# Altium integrated library Lattice CPLD ispMACH 5000B.IntLib: 54 symbols (part 5 of 6)
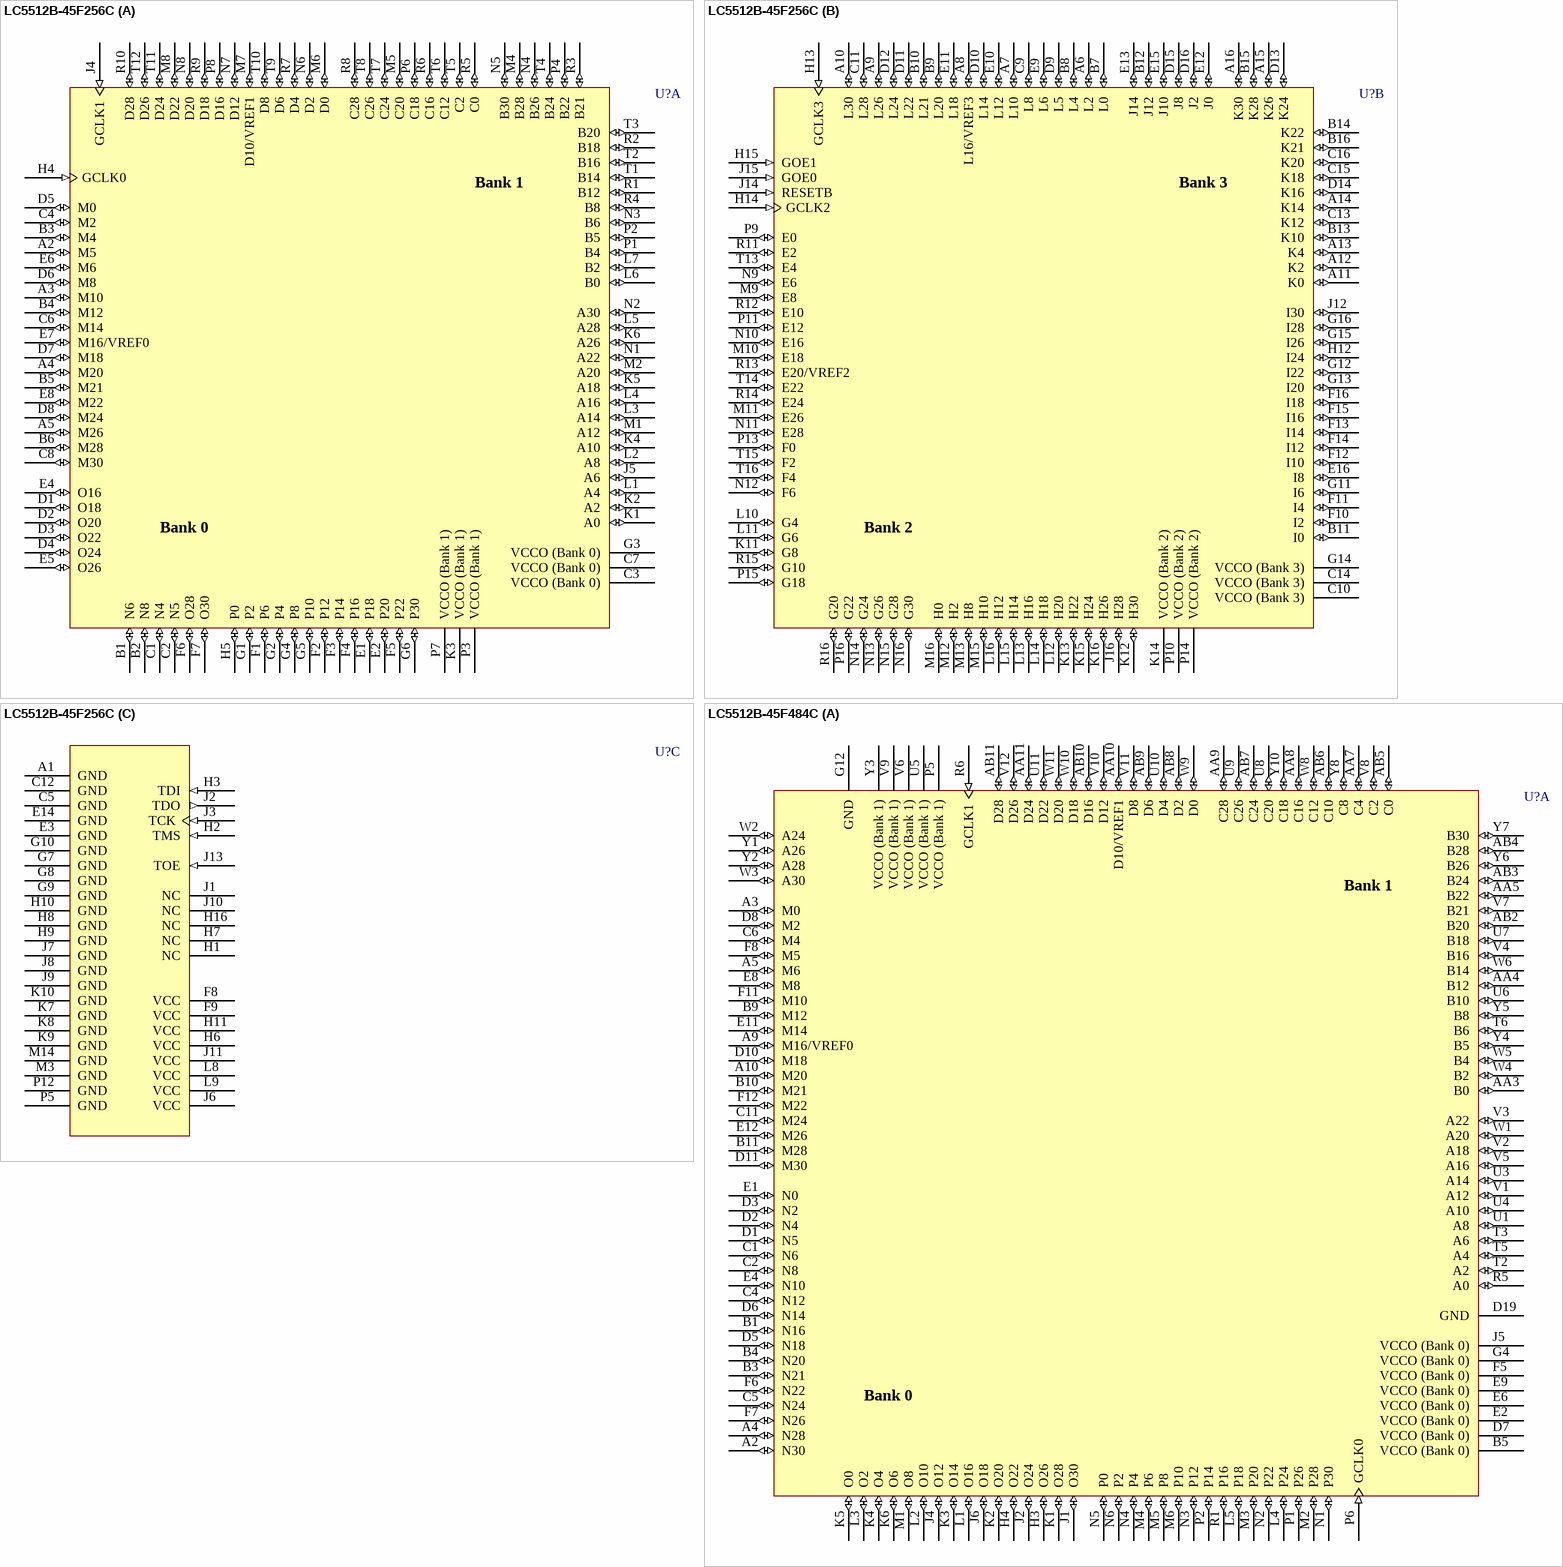
[diagram p48: symbols LC5512B-45F256C to LC5512B-45F484C]

## LC5512B-45F256C
designator U?
ispMACH 5512B SuperWIDE, High Density PLD, 2.5 V, 196 User I/Os, 256-Ball fpBGA, 4.5 ns, Commercial Grade; Published: 17-Dec-2003; LatestRevisionDate: 13-Apr-2006; LatestRevisionNote: IPC-7351 Footprint Added.; DatasheetVersion: 5kb_11.1 (Sep-2003); PackageVersion: pkg_32, Aug-2005; PackageReference: fpBGA256; Publisher: Altium Limited; PackageDescription: 256-Ball Fine Pitch Ball Grid Array (fpBGA256); Code_IPC: BGA100P16X16-256; ComponentLink1Description: Manufacturer Link; ComponentLink1URL: http://www.latticesemi.com/; ComponentLink2Description: Datasheet; ComponentLink2URL: http://www.latticesemi.com/account/_download.cfm?AMID=4957; ComponentLink3Description: Lattice Login; ComponentLink3URL: http://www.latticesemi.com/account/login.cfm
footprint fpBGA256 (BGA, 256-Leads, Body 17x17mm, Pitch 1mm)
3D model 5512B-fpBGA256 (256-Ball Fine Pitch Ball Grid Array (fpBGA256))
part A pins: A2 M5 (io), A3 M10 (io), A4 M20 (io), A5 M26 (io), B1 N6 (io), B2 N8 (io), B3 M4 (io), B4 M12 (io), B5 M21 (io), B6 M28 (io), C1 N4 (io), C2 N5 (io), C3 VCCO (Bank 0) (power), C4 M2 (io), C6 M14 (io), C7 VCCO (Bank 0) (power), C8 M30 (io), D1 O18 (io), D2 O20 (io), D3 O22 (io), D4 O24 (io), D5 M0 (io), D6 M8 (io), D7 M18 (io), D8 M24 (io), E1 P18 (io), E2 P20 (io), E4 O16 (io), E5 O26 (io), E6 M6 (io), E7 M16/VREF0 (io), E8 M22 (io), F1 P6 (io), F2 P12 (io), F3 P14 (io), F4 P16 (io), F5 P22 (io), F6 O28 (io), F7 O30 (io), G1 P2 (io), G2 P4 (io), G3 VCCO (Bank 0) (power), G4 P8 (io), G5 P10 (io), G6 P30 (io), H4 GCLK0 (in), H5 P0 (io), J4 GCLK1 (in), J5 A6 (io), K1 A0 (io), K2 A2 (io), K3 VCCO (Bank 1) (power), K4 A10 (io), K5 A18 (io), K6 A26 (io), L1 A4 (io), L2 A8 (io), L3 A14 (io), L4 A16 (io), L5 A28 (io), L6 B0 (io), L7 B2 (io), M1 A12 (io), M2 A20 (io), M4 B28 (io), M5 C20 (io), M6 D0 (io), M7 D10/VREF1 (io), M8 D22 (io), N1 A22 (io), N2 A30 (io), N3 B6 (io), N4 B26 (io), N5 B30 (io), N6 D2 (io), N7 D12 (io), N8 D20 (io), P1 B4 (io), P2 B5 (io), P3 VCCO (Bank 1) (power), P4 B22 (io), P6 C18 (io), P7 VCCO (Bank 1) (power), P8 D16 (io), R1 B12 (io), R2 B18 (io), R3 B21 (io), R4 B8 (io), R5 C0 (io), R6 C16 (io), R7 D4 (io), R8 C28 (io), R9 D18 (io), R10 D28 (io), T1 B14 (io), T2 B16 (io), T3 B20 (io), T4 B24 (io), T5 C2 (io), T6 C12 (io), T7 C24 (io), T8 C26 (io), T9 D6 (io), T10 D8 (io), T11 D24 (io), T12 D26 (io)
part B pins: A6 L2 (io), A7 L10 (io), A8 L16/VREF3 (io), A9 L26 (io), A10 L30 (io), A11 K0 (io), A12 K2 (io), A13 K4 (io), A14 K14 (io), A15 K26 (io), A16 K30 (io), B7 L0 (io), B8 L4 (io), B9 L20 (io), B10 L21 (io), B11 I0 (io), B12 J12 (io), B13 K10 (io), B14 K22 (io), B15 K28 (io), B16 K21 (io), C9 L8 (io), C10 VCCO (Bank 3) (power), C11 L28 (io), C13 K12 (io), C14 VCCO (Bank 3) (power), C15 K18 (io), C16 K20 (io), D9 L5 (io), D10 L14 (io), D11 L22 (io), D12 L24 (io), D13 K24 (io), D14 K16 (io), D15 J8 (io), D16 J2 (io), E9 L6 (io), E10 L12 (io), E11 L18 (io), E12 J0 (io), E13 J14 (io), E15 J10 (io), E16 I8 (io), F10 I2 (io), F11 I4 (io), F12 I10 (io), F13 I14 (io), F14 I12 (io), F15 I16 (io), F16 I18 (io), G11 I6 (io), G12 I22 (io), G13 I20 (io), G14 VCCO (Bank 3) (power), G15 I26 (io), G16 I28 (io), H12 I24 (io), H13 GCLK3 (in), H14 GCLK2 (in), H15 GOE1 (in), J12 I30 (io), J14 RESETB (in), J15 GOE0 (in), J16 H28 (io), K11 G8 (io), K12 H30 (io), K13 H22 (io), K14 VCCO (Bank 2) (power), K15 H24 (io), K16 H26 (io), L10 G4 (io), L11 G6 (io), L12 H20 (io), L13 H16 (io), L14 H18 (io), L15 H14 (io), L16 H12 (io), M9 E8 (io), M10 E18 (io), M11 E26 (io), M12 H2 (io), M13 H8 (io), M15 H10 (io), M16 H0 (io), N9 E6 (io), N10 E16 (io), N11 E28 (io), N12 F6 (io), N13 G26 (io), N14 G24 (io), N15 G28 (io), N16 G30 (io), P9 E0 (io), P10 VCCO (Bank 2) (power), P11 E12 (io), P13 F0 (io), P14 VCCO (Bank 2) (power), P15 G18 (io), P16 G22 (io), R11 E2 (io), R12 E10 (io), R13 E20/VREF2 (io), R14 E24 (io), R15 G10 (io), R16 G20 (io), T13 E4 (io), T14 E22 (io), T15 F2 (io), T16 F4 (io)
part C pins: A1 GND (power), C5 GND (power), C12 GND (power), E3 GND (power), E14 GND (power), F8 VCC (power), F9 VCC (power), G7 GND (power), G8 GND (power), G9 GND (power), G10 GND (power), H1 NC, H2 TMS (in), H3 TDI (in), H6 VCC (power), H7 NC, H8 GND (power), H9 GND (power), H10 GND (power), H11 VCC (power), H16 NC, J1 NC, J2 TDO (out), J3 TCK (in), J6 VCC (power), J7 GND (power), J8 GND (power), J9 GND (power), J10 NC, J11 VCC (power), J13 TOE (in), K7 GND (power), K8 GND (power), K9 GND (power), K10 GND (power), L8 VCC (power), L9 VCC (power), M3 GND (power), M14 GND (power), P5 GND (power), P12 GND (power)
part A text: Bank 1; Bank 0
part B text: Bank 3; Bank 2

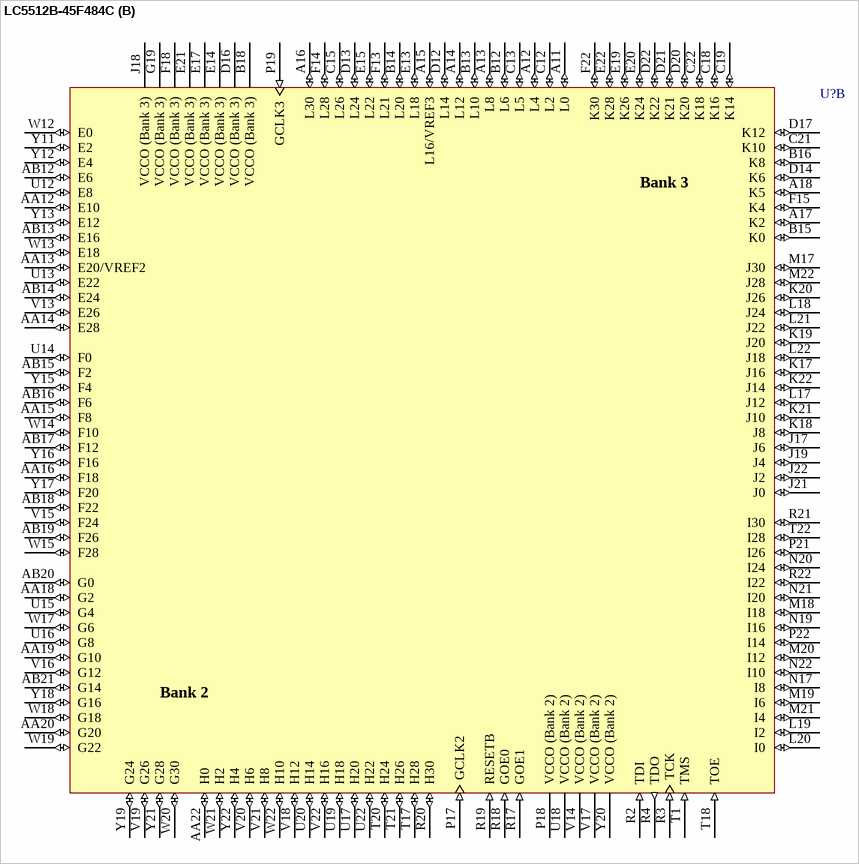
[diagram p35: symbol LC5512B-45F484C]

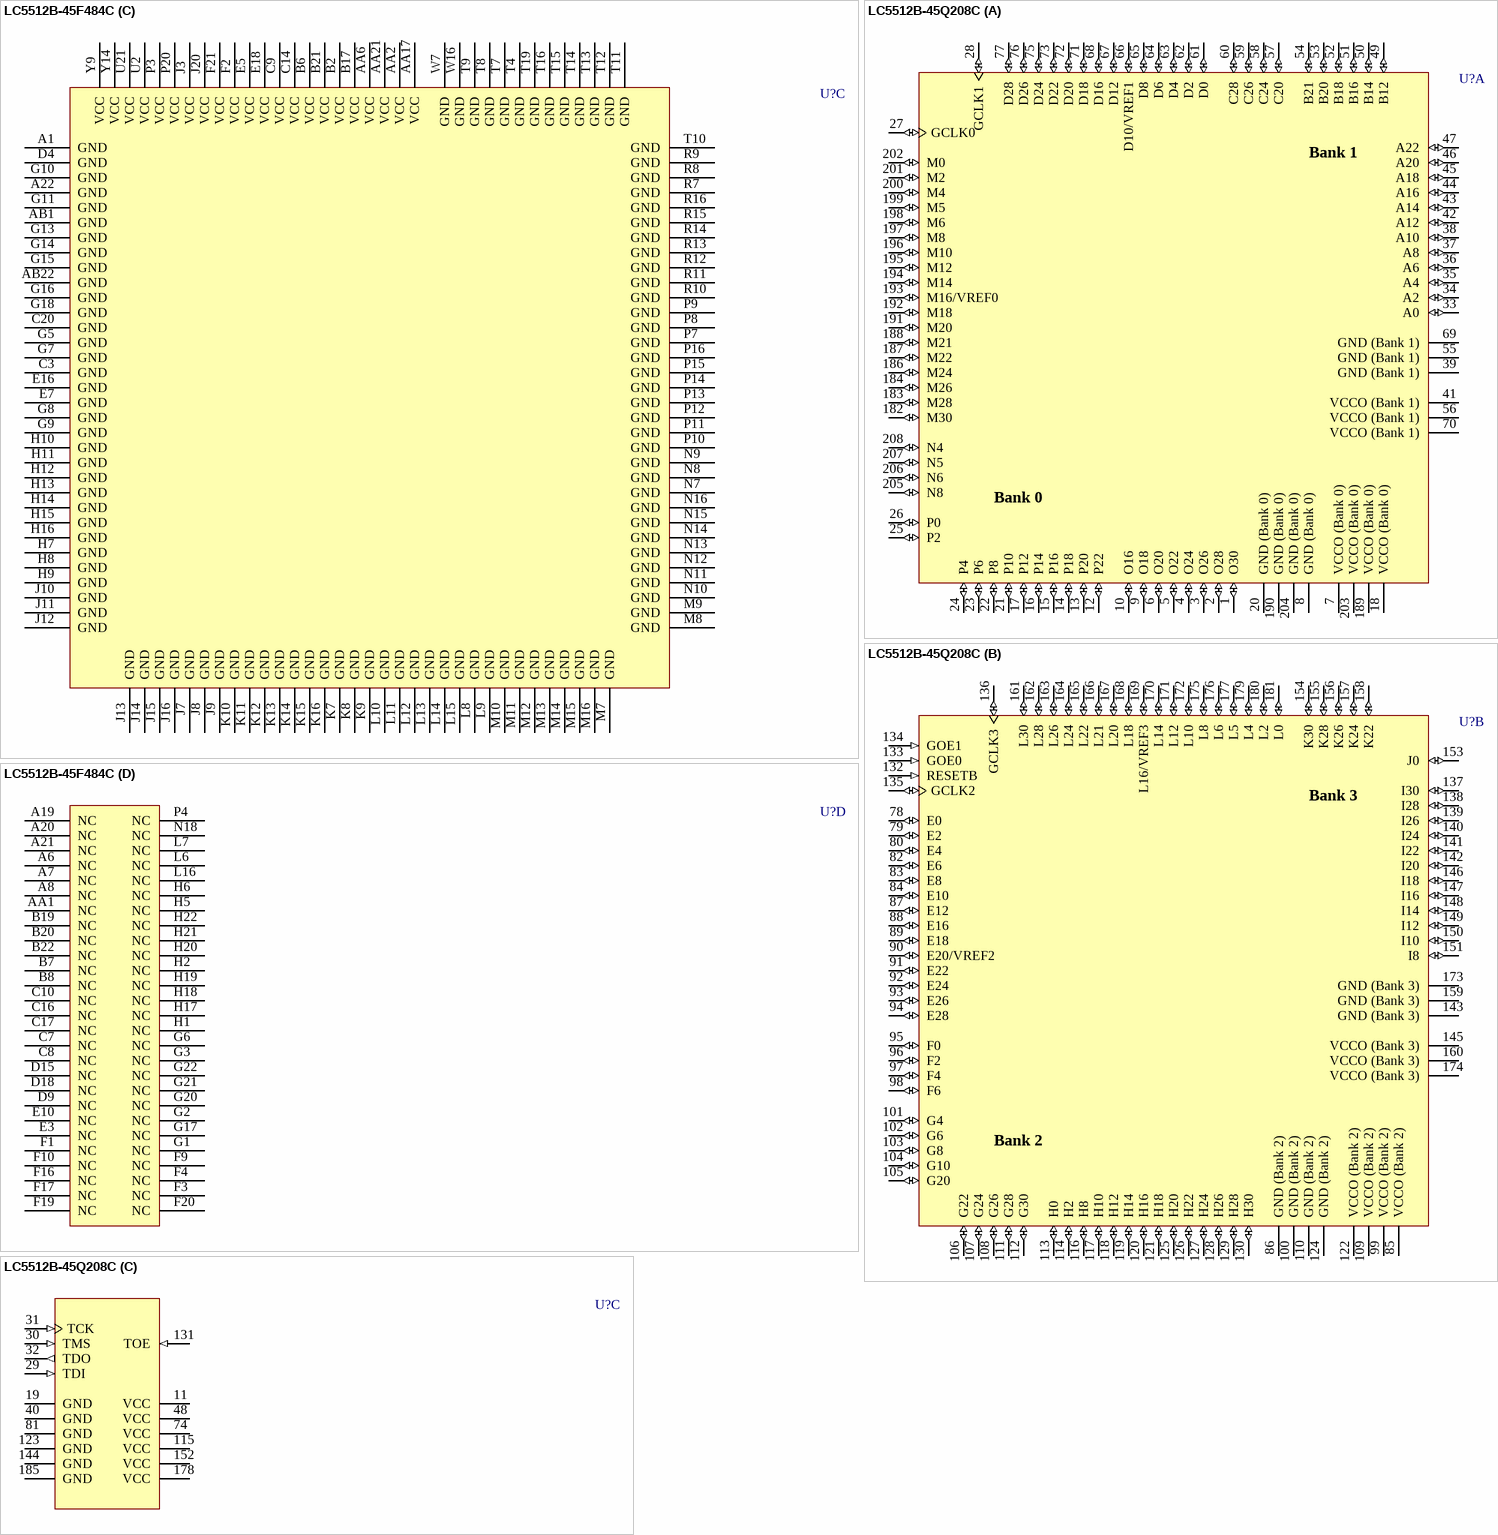
[diagram p36: symbols LC5512B-45F484C to LC5512B-45Q208C]

## LC5512B-45F484C
designator U?
ispMACH 5512B SuperWIDE, High Density PLD, 2.5 V, 256 User I/Os, 484-Ball fpBGA, 4.5 ns, Commercial Grade; Published: 17-Dec-2003; LatestRevisionDate: 13-Apr-2006; LatestRevisionNote: IPC-7351 Footprint Added.; DatasheetVersion: 5kb_11.1 (Sep-2003); PackageVersion: pkg_32, Aug-2005; PackageReference: fpBGA484; Publisher: Altium Limited; PackageDescription: 484-Ball Fine Pitch Ball Grid Array (fpBGA484); Code_IPC: BGA100P22X22-484; ComponentLink1Description: Manufacturer Link; ComponentLink1URL: http://www.latticesemi.com/; ComponentLink2Description: Datasheet; ComponentLink2URL: http://www.latticesemi.com/account/_download.cfm?AMID=4957; ComponentLink3Description: Lattice Login; ComponentLink3URL: http://www.latticesemi.com/account/login.cfm
footprint fpBGA484 (BGA, 484-Leads, Body 23x23mm, Pitch 1mm)
3D model 5512B-fpBGA484 (484-Ball Fine Pitch Ball Grid Array (fpBGA484))
part A pins: A2 N30 (io), A3 M0 (io), A4 N28 (io), A5 M6 (io), A9 M16/VREF0 (io), A10 M20 (io), AA3 B0 (io), AA4 B12 (io), AA5 B22 (io), AA7 C4 (io), AA8 C16 (io), AA9 C28 (io), AA10 D10/VREF1 (io), AA11 D24 (io), AB2 B20 (io), AB3 B24 (io), AB4 B28 (io), AB5 C0 (io), AB6 C10 (io), AB7 C24 (io), AB8 D2 (io), AB9 D6 (io), AB10 D16 (io), AB11 D28 (io), B1 N16 (io), B3 N21 (io), B4 N20 (io), B5 VCCO (Bank 0) (power), B9 M12 (io), B10 M21 (io), B11 M28 (io), C1 N6 (io), C2 N8 (io), C4 N12 (io), C5 N24 (io), C6 M4 (io), C11 M24 (io), D1 N5 (io), D2 N4 (io), D3 N2 (io), D5 N18 (io), D6 N14 (io), D7 VCCO (Bank 0) (power), D8 M2 (io), D10 M18 (io), D11 M30 (io), D19 GND (power), E1 N0 (io), E2 VCCO (Bank 0) (power), E4 N10 (io), E6 VCCO (Bank 0) (power), E8 M8 (io), E9 VCCO (Bank 0) (power), E11 M14 (io), E12 M26 (io), F5 VCCO (Bank 0) (power), F6 N22 (io), F7 N26 (io), F8 M5 (io), F11 M10 (io), F12 M22 (io), G4 VCCO (Bank 0) (power), G12 GND (power), H3 O26 (io), H4 O22 (io), J1 O30 (io), J2 O24 (io), J4 O12 (io), J5 VCCO (Bank 0) (power), J6 O18 (io), K1 O28 (io), K2 O20 (io), K3 O14 (io), K4 O4 (io), K5 O0 (io), K6 O6 (io), L1 O16 (io), L2 O10 (io), L3 O2 (io), L4 P24 (io), L5 P18 (io), M1 O8 (io), M2 P28 (io), M3 P20 (io), M4 P6 (io), M5 P8 (io), M6 P10 (io), N1 P30 (io), N2 P22 (io), N3 P12 (io), N4 P4 (io), N5 P0 (io), N6 P2 (io), P1 P26 (io), P2 P14 (io), P5 VCCO (Bank 1) (power), P6 GCLK0 (in), R1 P16 (io), R5 A0 (io), R6 GCLK1 (in), T2 A2 (io), T3 A6 (io), T5 A4 (io), T6 B6 (io), U1 A8 (io), U3 A14 (io), U4 A10 (io), U5 VCCO (Bank 1) (power), U6 B10 (io), U7 B18 (io), U8 C20 (io), U9 C26 (io), U10 D4 (io), U11 D22 (io), V1 A12 (io), V2 A18 (io), V3 A22 (io), V4 B16 (io), V5 A16 (io), V6 VCCO (Bank 1) (power), V7 B21 (io), V8 C2 (io), V9 VCCO (Bank 1) (power), V10 D12 (io), V11 D8 (io), V12 D26 (io), W1 A20 (io), W2 A24 (io), W3 A30 (io), W4 B2 (io), W5 B4 (io), W6 B14 (io), W8 C12 (io), W9 D0 (io), W10 D18 (io), W11 D20 (io), Y1 A26 (io), Y2 A28 (io), Y3 VCCO (Bank 1) (power), Y4 B5 (io), Y5 B8 (io), Y6 B26 (io), Y7 B30 (io), Y8 C8 (io), Y10 C18 (io)
part B pins: A11 L0 (io), A12 L4 (io), A13 L8 (io), A14 L12 (io), A15 L16/VREF3 (io), A16 L30 (io), A17 K2 (io), A18 K5 (io), AA12 E10 (io), AA13 E20/VREF2 (io), AA14 E28 (io), AA15 F8 (io), AA16 F18 (io), AA18 G2 (io), AA19 G10 (io), AA20 G20 (io), AA22 H0 (io), AB12 E6 (io), AB13 E16 (io), AB14 E24 (io), AB15 F2 (io), AB16 F6 (io), AB17 F12 (io), AB18 F22 (io), AB19 F26 (io), AB20 G0 (io), AB21 G14 (io), B12 L6 (io), B13 L10 (io), B14 L20 (io), B15 K0 (io), B16 K8 (io), B18 VCCO (Bank 3) (power), C12 L2 (io), C13 L5 (io), C15 L26 (io), C18 K16 (io), C19 K14 (io), C21 K10 (io), C22 K18 (io), D12 L14 (io), D13 L24 (io), D14 K6 (io), D16 VCCO (Bank 3) (power), D17 K12 (io), D20 K20 (io), D21 K21 (io), D22 K22 (io), E13 L18 (io), E14 VCCO (Bank 3) (power), E15 L22 (io), E17 VCCO (Bank 3) (power), E19 K26 (io), E20 K24 (io), E21 VCCO (Bank 3) (power), E22 K28 (io), F13 L21 (io), F14 L28 (io), F15 K4 (io), F18 VCCO (Bank 3) (power), F22 K30 (io), G19 VCCO (Bank 3) (power), J17 J6 (io), J18 VCCO (Bank 3) (power), J19 J4 (io), J21 J0 (io), J22 J2 (io), K17 J16 (io), K18 J8 (io), K19 J20 (io), K20 J26 (io), K21 J10 (io), K22 J14 (io), L17 J12 (io), L18 J24 (io), L19 I2 (io), L20 I0 (io), L21 J22 (io), L22 J18 (io), M17 J30 (io), M18 I18 (io), M19 I6 (io), M20 I12 (io), M21 I4 (io), M22 J28 (io), N17 I8 (io), N19 I16 (io), N20 I24 (io), N21 I20 (io), N22 I10 (io), P17 GCLK2 (in), P18 VCCO (Bank 2) (power), P19 GCLK3 (in), P21 I26 (io), P22 I14 (io), R2 TDI (in), R3 TCK (in), R4 TDO (out), R17 GOE1 (in), R18 GOE0 (in), R19 RESETB (in), R20 H30 (io), R21 I30 (io), R22 I22 (io), T1 TMS (in), T17 H28 (io), T18 TOE (in), T20 H24 (io), T21 H26 (io), T22 I28 (io), U12 E8 (io), U13 E22 (io), U14 F0 (io), U15 G4 (io), U16 G8 (io), U17 H20 (io), U18 VCCO (Bank 2) (power), U19 H18 (io), U20 H14 (io), U22 H22 (io), V13 E26 (io), V14 VCCO (Bank 2) (power), V15 F24 (io), V16 G12 (io), V17 VCCO (Bank 2) (power), V18 H12 (io), V19 G26 (io), V20 H6 (io), V21 H8 (io), V22 H16 (io), W12 E0 (io), W13 E18 (io), W14 F10 (io), W15 F28 (io), W17 G6 (io), W18 G18 (io), W19 G22 (io), W20 G30 (io), W21 H2 (io), W22 H10 (io), Y11 E2 (io), Y12 E4 (io), Y13 E12 (io), Y15 F4 (io), Y16 F16 (io), Y17 F20 (io), Y18 G16 (io), Y19 G24 (io), Y20 VCCO (Bank 2) (power), Y21 G28 (io), Y22 H4 (io)
part C pins: A1 GND (power), A22 GND (power), AA2 VCC (power), AA6 VCC (power), AA17 VCC (power), AA21 VCC (power), AB1 GND (power), AB22 GND (power), B2 VCC (power), B6 VCC (power), B17 VCC (power), B21 VCC (power), C3 GND (power), C9 VCC (power), C14 VCC (power), C20 GND (power), D4 GND (power), E5 VCC (power), E7 GND (power), E16 GND (power), E18 VCC (power), F2 VCC (power), F21 VCC (power), G5 GND (power), G7 GND (power), G8 GND (power), G9 GND (power), G10 GND (power), G11 GND (power), G13 GND (power), G14 GND (power), G15 GND (power), G16 GND (power), G18 GND (power), H7 GND (power), H8 GND (power), H9 GND (power), H10 GND (power), H11 GND (power), H12 GND (power), H13 GND (power), H14 GND (power), H15 GND (power), H16 GND (power), J3 VCC (power), J7 GND (power), J8 GND (power), J9 GND (power), J10 GND (power), J11 GND (power), J12 GND (power), J13 GND (power), J14 GND (power), J15 GND (power), J16 GND (power), J20 VCC (power), K7 GND (power), K8 GND (power), K9 GND (power), K10 GND (power), K11 GND (power), K12 GND (power), K13 GND (power), K14 GND (power), K15 GND (power), K16 GND (power), L8 GND (power), L9 GND (power), L10 GND (power), L11 GND (power), L12 GND (power), L13 GND (power), L14 GND (power), L15 GND (power), M7 GND (power), M8 GND (power), M9 GND (power), M10 GND (power), M11 GND (power), M12 GND (power), M13 GND (power), M14 GND (power), M15 GND (power), M16 GND (power), N7 GND (power), N8 GND (power), N9 GND (power), N10 GND (power), N11 GND (power), N12 GND (power), N13 GND (power), N14 GND (power), N15 GND (power), N16 GND (power), P3 VCC (power), P7 GND (power), P8 GND (power), P9 GND (power), P10 GND (power), P11 GND (power), P12 GND (power), P13 GND (power), P14 GND (power), P15 GND (power), P16 GND (power), P20 VCC (power), R7 GND (power), R8 GND (power), R9 GND (power), R10 GND (power), R11 GND (power), R12 GND (power), R13 GND (power), R14 GND (power), R15 GND (power), R16 GND (power), T4 GND (power), T7 GND (power), T8 GND (power), T9 GND (power), T10 GND (power), T11 GND (power), T12 GND (power), T13 GND (power), T14 GND (power), T15 GND (power), T16 GND (power), T19 GND (power), U2 VCC (power), U21 VCC (power), W7 GND (power), W16 GND (power), Y9 VCC (power), Y14 VCC (power)
part D pins: A6 NC, A7 NC, A8 NC, A19 NC, A20 NC, A21 NC, AA1 NC, B7 NC, B8 NC, B19 NC, B20 NC, B22 NC, C7 NC, C8 NC, C10 NC, C16 NC, C17 NC, D9 NC, D15 NC, D18 NC, E3 NC, E10 NC, F1 NC, F3 NC, F4 NC, F9 NC, F10 NC, F16 NC, F17 NC, F19 NC, F20 NC, G1 NC, G2 NC, G3 NC, G6 NC, G17 NC, G20 NC, G21 NC, G22 NC, H1 NC, H2 NC, H5 NC, H6 NC, H17 NC, H18 NC, H19 NC, H20 NC, H21 NC, H22 NC, L6 NC, L7 NC, L16 NC, N18 NC, P4 NC
part A text: Bank 1; Bank 0
part B text: Bank 3; Bank 2

## LC5512B-45Q208C
designator U?
ispMACH 5512B SuperWIDE, High Density PLD, 2.5 V, 156 User I/Os, 208-Pin PQFP, 4.5 ns, Commercial Grade; Published: 17-Dec-2003; LatestRevisionDate: 13-Apr-2006; LatestRevisionNote: IPC-7351 Footprint Added.; DatasheetVersion: 5kb_11.1 (Sep-2003); PackageVersion: pkg_32, Aug-2005; PackageReference: PQFP208; Publisher: Altium Limited; PackageDescription: 208-Pin Plastic Quad Flat Pack (PQFP208); Code_JEDEC: MO-143-FAI; ComponentLink1Description: Manufacturer Link; ComponentLink1URL: http://www.latticesemi.com/; ComponentLink2Description: Datasheet; ComponentLink2URL: http://www.latticesemi.com/account/_download.cfm?AMID=4957; ComponentLink3Description: Lattice Login; ComponentLink3URL: http://www.latticesemi.com/account/login.cfm
footprint PQFP208_N (Shrink QFP, 208-Leads, Body 28x28mm, Pitch 0.5mm, IPC Medium Density)
footprint PQFP208_L (Shrink QFP, 208-Leads, Body 28x28mm, Pitch 0.5mm, IPC High Density)
footprint PQFP208_M (Shrink QFP, 208-Leads, Body 28x28mm, Pitch 0.5mm, IPC Low Density)
3D model 5512B-PQFP208 (208-Pin Plastic Quad Flat Pack (PQFP208))
part A pins: 1 O30 (io), 2 O28 (io), 3 O26 (io), 4 O24 (io), 5 O22 (io), 6 O20 (io), 7 VCCO (Bank 0) (power), 8 GND (Bank 0) (power), 9 O18 (io), 10 O16 (io), 12 P22 (io), 13 P20 (io), 14 P18 (io), 15 P16 (io), 16 P14 (io), 17 P12 (io), 18 VCCO (Bank 0) (power), 20 GND (Bank 0) (power), 21 P10 (io), 22 P8 (io), 23 P6 (io), 24 P4 (io), 25 P2 (io), 26 P0 (io), 27 GCLK0 (io), 28 GCLK1 (io), 33 A0 (io), 34 A2 (io), 35 A4 (io), 36 A6 (io), 37 A8 (io), 38 A10 (io), 39 GND (Bank 1) (power), 41 VCCO (Bank 1) (power), 42 A12 (io), 43 A14 (io), 44 A16 (io), 45 A18 (io), 46 A20 (io), 47 A22 (io), 49 B12 (io), 50 B14 (io), 51 B16 (io), 52 B18 (io), 53 B20 (io), 54 B21 (io), 55 GND (Bank 1) (power), 56 VCCO (Bank 1) (power), 57 C20 (io), 58 C24 (io), 59 C26 (io), 60 C28 (io), 61 D0 (io), 62 D2 (io), 63 D4 (io), 64 D6 (io), 65 D8 (io), 66 D10/VREF1 (io), 67 D12 (io), 68 D16 (io), 69 GND (Bank 1) (power), 70 VCCO (Bank 1) (power), 71 D18 (io), 72 D20 (io), 73 D22 (io), 75 D24 (io), 76 D26 (io), 77 D28 (io), 182 M30 (io), 183 M28 (io), 184 M26 (io), 186 M24 (io), 187 M22 (io), 188 M21 (io), 189 VCCO (Bank 0) (power), 190 GND (Bank 0) (power), 191 M20 (io), 192 M18 (io), 193 M16/VREF0 (io), 194 M14 (io), 195 M12 (io), 196 M10 (io), 197 M8 (io), 198 M6 (io), 199 M5 (io), 200 M4 (io), 201 M2 (io), 202 M0 (io), 203 VCCO (Bank 0) (power), 204 GND (Bank 0) (power), 205 N8 (io), 206 N6 (io), 207 N5 (io), 208 N4 (io)
part B pins: 78 E0 (io), 79 E2 (io), 80 E4 (io), 82 E6 (io), 83 E8 (io), 84 E10 (io), 85 VCCO (Bank 2) (power), 86 GND (Bank 2) (power), 87 E12 (io), 88 E16 (io), 89 E18 (io), 90 E20/VREF2 (io), 91 E22 (io), 92 E24 (io), 93 E26 (io), 94 E28 (io), 95 F0 (io), 96 F2 (io), 97 F4 (io), 98 F6 (io), 99 VCCO (Bank 2) (power), 100 GND (Bank 2) (power), 101 G4 (io), 102 G6 (io), 103 G8 (io), 104 G10 (io), 105 G20 (io), 106 G22 (io), 107 G24 (io), 108 G26 (io), 109 VCCO (Bank 2) (power), 110 GND (Bank 2) (power), 111 G28 (io), 112 G30 (io), 113 H0 (io), 114 H2 (io), 116 H8 (io), 117 H10 (io), 118 H12 (io), 119 H14 (io), 120 H16 (io), 121 H18 (io), 122 VCCO (Bank 2) (power), 124 GND (Bank 2) (power), 125 H20 (io), 126 H22 (io), 127 H24 (io), 128 H26 (io), 129 H28 (io), 130 H30 (io), 132 RESETB (in), 133 GOE0 (in), 134 GOE1 (in), 135 GCLK2 (io), 136 GCLK3 (io), 137 I30 (io), 138 I28 (io), 139 I26 (io), 140 I24 (io), 141 I22 (io), 142 I20 (io), 143 GND (Bank 3) (power), 145 VCCO (Bank 3) (power), 146 I18 (io), 147 I16 (io), 148 I14 (io), 149 I12 (io), 150 I10 (io), 151 I8 (io), 153 J0 (io), 154 K30 (io), 155 K28 (io), 156 K26 (io), 157 K24 (io), 158 K22 (io), 159 GND (Bank 3) (power), 160 VCCO (Bank 3) (power), 161 L30 (io), 162 L28 (io), 163 L26 (io), 164 L24 (io), 165 L22 (io), 166 L21 (io), 167 L20 (io), 168 L18 (io), 169 L16/VREF3 (io), 170 L14 (io), 171 L12 (io), 172 L10 (io), 173 GND (Bank 3) (power), 174 VCCO (Bank 3) (power), 175 L8 (io), 176 L6 (io), 177 L5 (io), 179 L4 (io), 180 L2 (io), 181 L0 (io)
part C pins: 11 VCC (power), 19 GND (power), 29 TDI (in), 30 TMS (in), 31 TCK (in), 32 TDO (out), 40 GND (power), 48 VCC (power), 74 VCC (power), 81 GND (power), 115 VCC (power), 123 GND (power), 131 TOE (in), 144 GND (power), 152 VCC (power), 178 VCC (power), 185 GND (power)
part A text: Bank 1; Bank 0
part B text: Bank 3; Bank 2

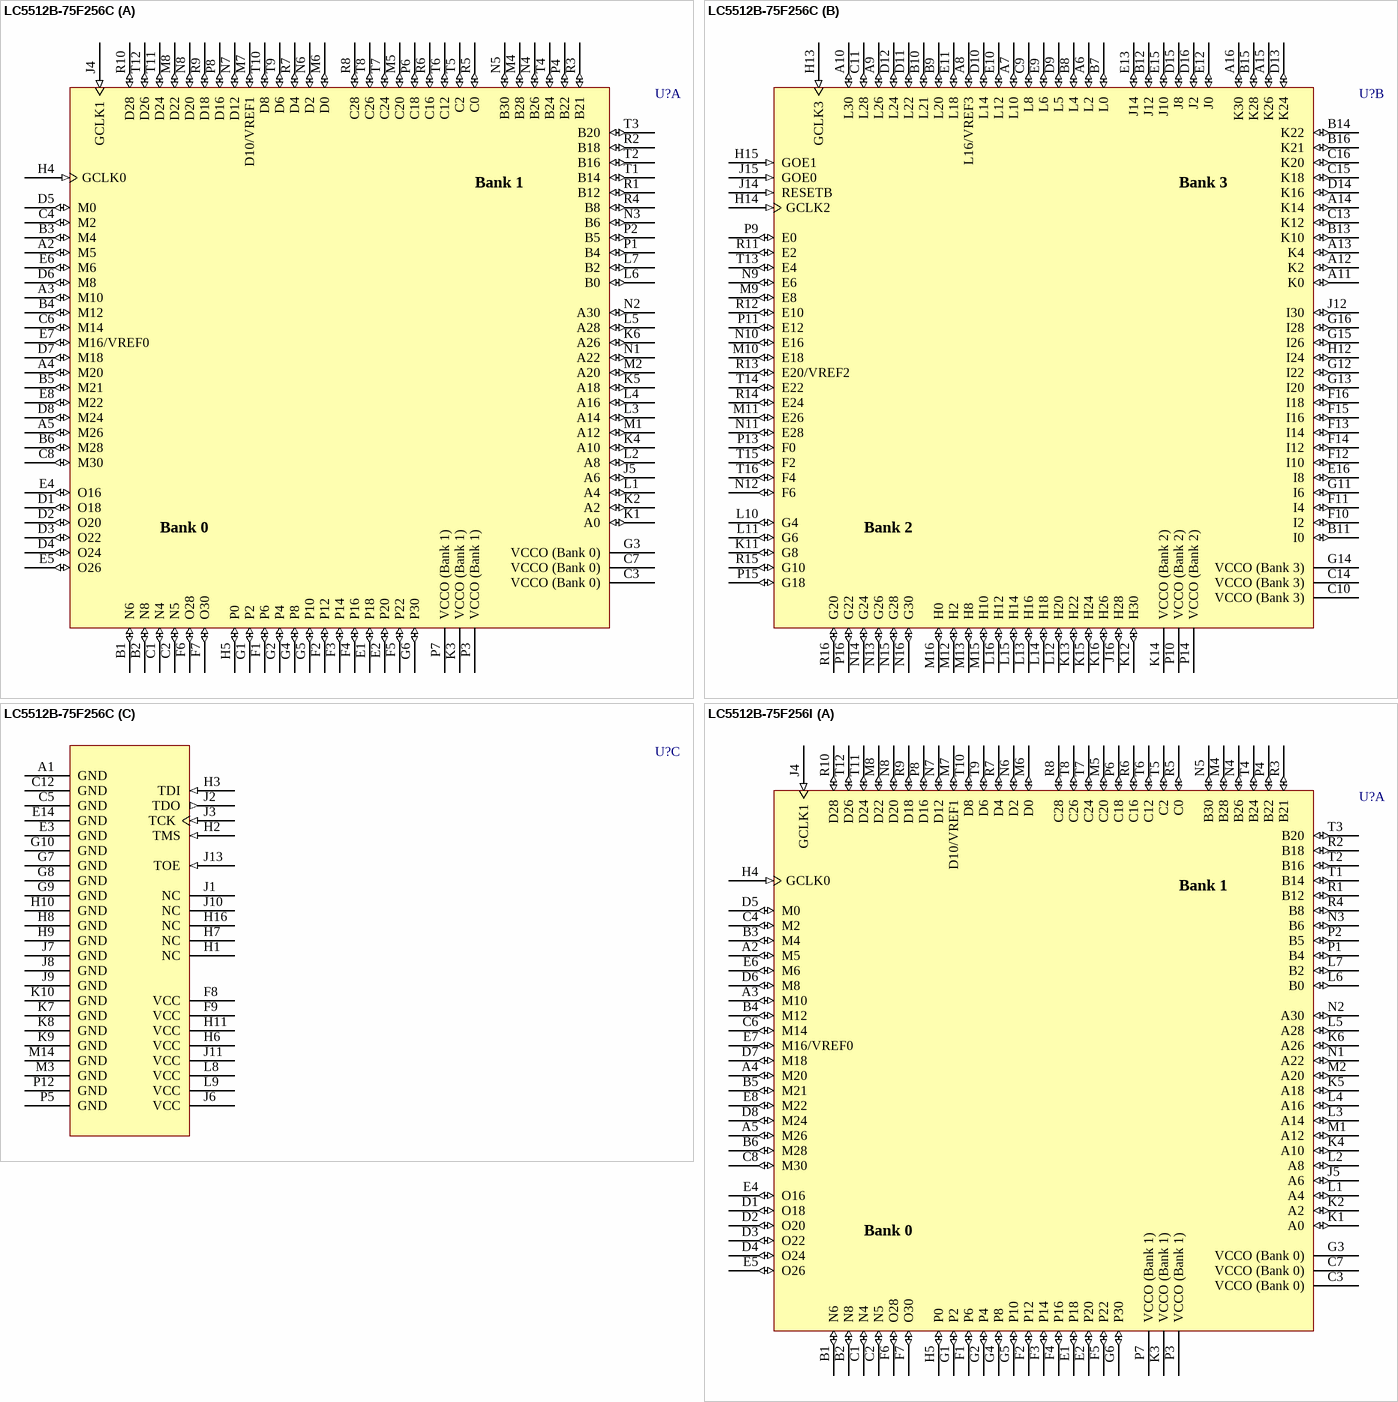
[diagram p37: symbols LC5512B-75F256C to LC5512B-75F256I]

## LC5512B-75F256C
designator U?
ispMACH 5512B SuperWIDE, High Density PLD, 2.5 V, 196 User I/Os, 256-Ball fpBGA, 7.5 ns, Commercial Grade; Published: 17-Dec-2003; LatestRevisionDate: 13-Apr-2006; LatestRevisionNote: IPC-7351 Footprint Added.; DatasheetVersion: 5kb_11.1 (Sep-2003); PackageVersion: pkg_32, Aug-2005; PackageReference: fpBGA256; Publisher: Altium Limited; PackageDescription: 256-Ball Fine Pitch Ball Grid Array (fpBGA256); Code_IPC: BGA100P16X16-256; ComponentLink1Description: Manufacturer Link; ComponentLink1URL: http://www.latticesemi.com/; ComponentLink2Description: Datasheet; ComponentLink2URL: http://www.latticesemi.com/account/_download.cfm?AMID=4957; ComponentLink3Description: Lattice Login; ComponentLink3URL: http://www.latticesemi.com/account/login.cfm
footprint fpBGA256 (BGA, 256-Leads, Body 17x17mm, Pitch 1mm)
3D model 5512B-fpBGA256 (256-Ball Fine Pitch Ball Grid Array (fpBGA256))
part A pins: A2 M5 (io), A3 M10 (io), A4 M20 (io), A5 M26 (io), B1 N6 (io), B2 N8 (io), B3 M4 (io), B4 M12 (io), B5 M21 (io), B6 M28 (io), C1 N4 (io), C2 N5 (io), C3 VCCO (Bank 0) (power), C4 M2 (io), C6 M14 (io), C7 VCCO (Bank 0) (power), C8 M30 (io), D1 O18 (io), D2 O20 (io), D3 O22 (io), D4 O24 (io), D5 M0 (io), D6 M8 (io), D7 M18 (io), D8 M24 (io), E1 P18 (io), E2 P20 (io), E4 O16 (io), E5 O26 (io), E6 M6 (io), E7 M16/VREF0 (io), E8 M22 (io), F1 P6 (io), F2 P12 (io), F3 P14 (io), F4 P16 (io), F5 P22 (io), F6 O28 (io), F7 O30 (io), G1 P2 (io), G2 P4 (io), G3 VCCO (Bank 0) (power), G4 P8 (io), G5 P10 (io), G6 P30 (io), H4 GCLK0 (in), H5 P0 (io), J4 GCLK1 (in), J5 A6 (io), K1 A0 (io), K2 A2 (io), K3 VCCO (Bank 1) (power), K4 A10 (io), K5 A18 (io), K6 A26 (io), L1 A4 (io), L2 A8 (io), L3 A14 (io), L4 A16 (io), L5 A28 (io), L6 B0 (io), L7 B2 (io), M1 A12 (io), M2 A20 (io), M4 B28 (io), M5 C20 (io), M6 D0 (io), M7 D10/VREF1 (io), M8 D22 (io), N1 A22 (io), N2 A30 (io), N3 B6 (io), N4 B26 (io), N5 B30 (io), N6 D2 (io), N7 D12 (io), N8 D20 (io), P1 B4 (io), P2 B5 (io), P3 VCCO (Bank 1) (power), P4 B22 (io), P6 C18 (io), P7 VCCO (Bank 1) (power), P8 D16 (io), R1 B12 (io), R2 B18 (io), R3 B21 (io), R4 B8 (io), R5 C0 (io), R6 C16 (io), R7 D4 (io), R8 C28 (io), R9 D18 (io), R10 D28 (io), T1 B14 (io), T2 B16 (io), T3 B20 (io), T4 B24 (io), T5 C2 (io), T6 C12 (io), T7 C24 (io), T8 C26 (io), T9 D6 (io), T10 D8 (io), T11 D24 (io), T12 D26 (io)
part B pins: A6 L2 (io), A7 L10 (io), A8 L16/VREF3 (io), A9 L26 (io), A10 L30 (io), A11 K0 (io), A12 K2 (io), A13 K4 (io), A14 K14 (io), A15 K26 (io), A16 K30 (io), B7 L0 (io), B8 L4 (io), B9 L20 (io), B10 L21 (io), B11 I0 (io), B12 J12 (io), B13 K10 (io), B14 K22 (io), B15 K28 (io), B16 K21 (io), C9 L8 (io), C10 VCCO (Bank 3) (power), C11 L28 (io), C13 K12 (io), C14 VCCO (Bank 3) (power), C15 K18 (io), C16 K20 (io), D9 L5 (io), D10 L14 (io), D11 L22 (io), D12 L24 (io), D13 K24 (io), D14 K16 (io), D15 J8 (io), D16 J2 (io), E9 L6 (io), E10 L12 (io), E11 L18 (io), E12 J0 (io), E13 J14 (io), E15 J10 (io), E16 I8 (io), F10 I2 (io), F11 I4 (io), F12 I10 (io), F13 I14 (io), F14 I12 (io), F15 I16 (io), F16 I18 (io), G11 I6 (io), G12 I22 (io), G13 I20 (io), G14 VCCO (Bank 3) (power), G15 I26 (io), G16 I28 (io), H12 I24 (io), H13 GCLK3 (in), H14 GCLK2 (in), H15 GOE1 (in), J12 I30 (io), J14 RESETB (in), J15 GOE0 (in), J16 H28 (io), K11 G8 (io), K12 H30 (io), K13 H22 (io), K14 VCCO (Bank 2) (power), K15 H24 (io), K16 H26 (io), L10 G4 (io), L11 G6 (io), L12 H20 (io), L13 H16 (io), L14 H18 (io), L15 H14 (io), L16 H12 (io), M9 E8 (io), M10 E18 (io), M11 E26 (io), M12 H2 (io), M13 H8 (io), M15 H10 (io), M16 H0 (io), N9 E6 (io), N10 E16 (io), N11 E28 (io), N12 F6 (io), N13 G26 (io), N14 G24 (io), N15 G28 (io), N16 G30 (io), P9 E0 (io), P10 VCCO (Bank 2) (power), P11 E12 (io), P13 F0 (io), P14 VCCO (Bank 2) (power), P15 G18 (io), P16 G22 (io), R11 E2 (io), R12 E10 (io), R13 E20/VREF2 (io), R14 E24 (io), R15 G10 (io), R16 G20 (io), T13 E4 (io), T14 E22 (io), T15 F2 (io), T16 F4 (io)
part C pins: A1 GND (power), C5 GND (power), C12 GND (power), E3 GND (power), E14 GND (power), F8 VCC (power), F9 VCC (power), G7 GND (power), G8 GND (power), G9 GND (power), G10 GND (power), H1 NC, H2 TMS (in), H3 TDI (in), H6 VCC (power), H7 NC, H8 GND (power), H9 GND (power), H10 GND (power), H11 VCC (power), H16 NC, J1 NC, J2 TDO (out), J3 TCK (in), J6 VCC (power), J7 GND (power), J8 GND (power), J9 GND (power), J10 NC, J11 VCC (power), J13 TOE (in), K7 GND (power), K8 GND (power), K9 GND (power), K10 GND (power), L8 VCC (power), L9 VCC (power), M3 GND (power), M14 GND (power), P5 GND (power), P12 GND (power)
part A text: Bank 1; Bank 0
part B text: Bank 3; Bank 2

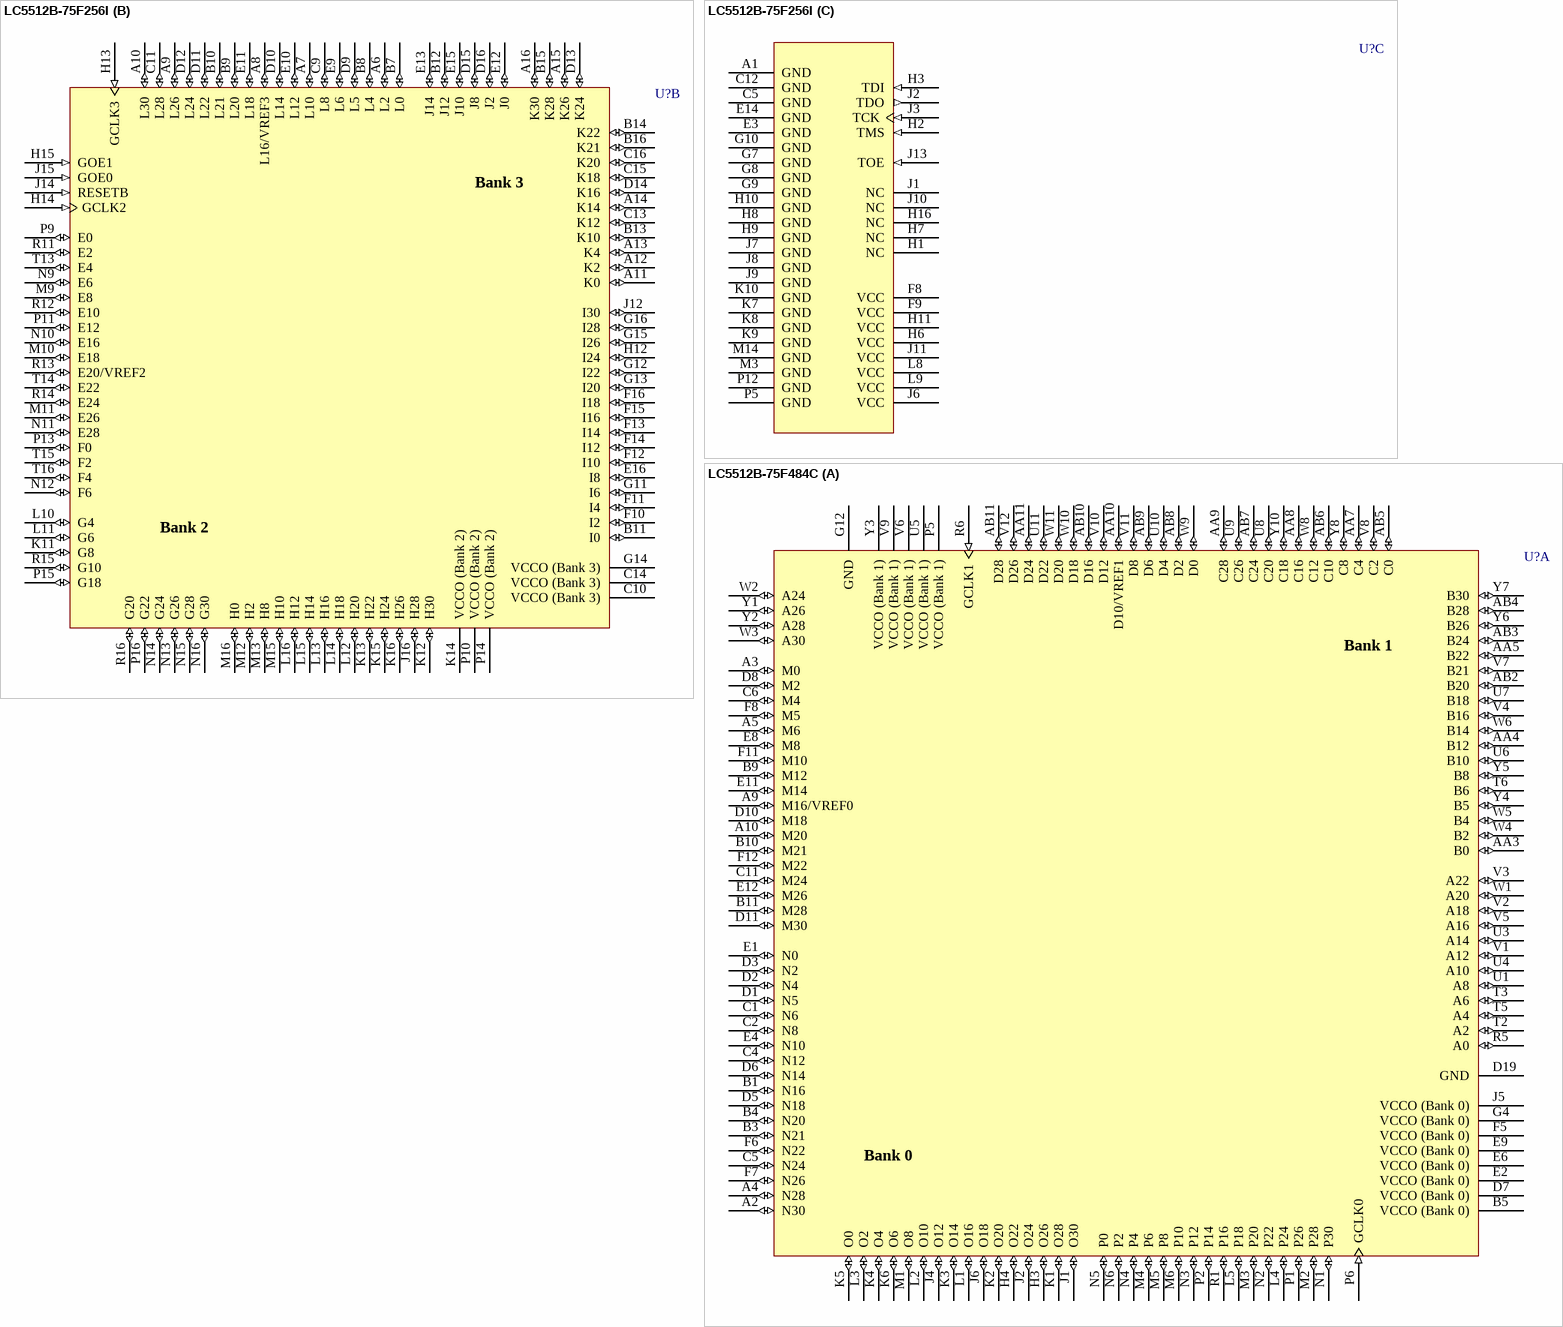
[diagram p38: symbols LC5512B-75F256I to LC5512B-75F484C]

## LC5512B-75F256I
designator U?
ispMACH 5512B SuperWIDE, High Density PLD, 2.5 V, 196 User I/Os, 256-Ball fpBGA, 7.5 ns, Industrial Grade; Published: 17-Dec-2003; LatestRevisionDate: 13-Apr-2006; LatestRevisionNote: IPC-7351 Footprint Added.; DatasheetVersion: 5kb_11.1 (Sep-2003); PackageVersion: pkg_32, Aug-2005; PackageReference: fpBGA256; Publisher: Altium Limited; PackageDescription: 256-Ball Fine Pitch Ball Grid Array (fpBGA256); Code_IPC: BGA100P16X16-256; ComponentLink1Description: Manufacturer Link; ComponentLink1URL: http://www.latticesemi.com/; ComponentLink2Description: Datasheet; ComponentLink2URL: http://www.latticesemi.com/account/_download.cfm?AMID=4957; ComponentLink3Description: Lattice Login; ComponentLink3URL: http://www.latticesemi.com/account/login.cfm
footprint fpBGA256 (BGA, 256-Leads, Body 17x17mm, Pitch 1mm)
3D model 5512B-fpBGA256 (256-Ball Fine Pitch Ball Grid Array (fpBGA256))
part A pins: A2 M5 (io), A3 M10 (io), A4 M20 (io), A5 M26 (io), B1 N6 (io), B2 N8 (io), B3 M4 (io), B4 M12 (io), B5 M21 (io), B6 M28 (io), C1 N4 (io), C2 N5 (io), C3 VCCO (Bank 0) (power), C4 M2 (io), C6 M14 (io), C7 VCCO (Bank 0) (power), C8 M30 (io), D1 O18 (io), D2 O20 (io), D3 O22 (io), D4 O24 (io), D5 M0 (io), D6 M8 (io), D7 M18 (io), D8 M24 (io), E1 P18 (io), E2 P20 (io), E4 O16 (io), E5 O26 (io), E6 M6 (io), E7 M16/VREF0 (io), E8 M22 (io), F1 P6 (io), F2 P12 (io), F3 P14 (io), F4 P16 (io), F5 P22 (io), F6 O28 (io), F7 O30 (io), G1 P2 (io), G2 P4 (io), G3 VCCO (Bank 0) (power), G4 P8 (io), G5 P10 (io), G6 P30 (io), H4 GCLK0 (in), H5 P0 (io), J4 GCLK1 (in), J5 A6 (io), K1 A0 (io), K2 A2 (io), K3 VCCO (Bank 1) (power), K4 A10 (io), K5 A18 (io), K6 A26 (io), L1 A4 (io), L2 A8 (io), L3 A14 (io), L4 A16 (io), L5 A28 (io), L6 B0 (io), L7 B2 (io), M1 A12 (io), M2 A20 (io), M4 B28 (io), M5 C20 (io), M6 D0 (io), M7 D10/VREF1 (io), M8 D22 (io), N1 A22 (io), N2 A30 (io), N3 B6 (io), N4 B26 (io), N5 B30 (io), N6 D2 (io), N7 D12 (io), N8 D20 (io), P1 B4 (io), P2 B5 (io), P3 VCCO (Bank 1) (power), P4 B22 (io), P6 C18 (io), P7 VCCO (Bank 1) (power), P8 D16 (io), R1 B12 (io), R2 B18 (io), R3 B21 (io), R4 B8 (io), R5 C0 (io), R6 C16 (io), R7 D4 (io), R8 C28 (io), R9 D18 (io), R10 D28 (io), T1 B14 (io), T2 B16 (io), T3 B20 (io), T4 B24 (io), T5 C2 (io), T6 C12 (io), T7 C24 (io), T8 C26 (io), T9 D6 (io), T10 D8 (io), T11 D24 (io), T12 D26 (io)
part B pins: A6 L2 (io), A7 L10 (io), A8 L16/VREF3 (io), A9 L26 (io), A10 L30 (io), A11 K0 (io), A12 K2 (io), A13 K4 (io), A14 K14 (io), A15 K26 (io), A16 K30 (io), B7 L0 (io), B8 L4 (io), B9 L20 (io), B10 L21 (io), B11 I0 (io), B12 J12 (io), B13 K10 (io), B14 K22 (io), B15 K28 (io), B16 K21 (io), C9 L8 (io), C10 VCCO (Bank 3) (power), C11 L28 (io), C13 K12 (io), C14 VCCO (Bank 3) (power), C15 K18 (io), C16 K20 (io), D9 L5 (io), D10 L14 (io), D11 L22 (io), D12 L24 (io), D13 K24 (io), D14 K16 (io), D15 J8 (io), D16 J2 (io), E9 L6 (io), E10 L12 (io), E11 L18 (io), E12 J0 (io), E13 J14 (io), E15 J10 (io), E16 I8 (io), F10 I2 (io), F11 I4 (io), F12 I10 (io), F13 I14 (io), F14 I12 (io), F15 I16 (io), F16 I18 (io), G11 I6 (io), G12 I22 (io), G13 I20 (io), G14 VCCO (Bank 3) (power), G15 I26 (io), G16 I28 (io), H12 I24 (io), H13 GCLK3 (in), H14 GCLK2 (in), H15 GOE1 (in), J12 I30 (io), J14 RESETB (in), J15 GOE0 (in), J16 H28 (io), K11 G8 (io), K12 H30 (io), K13 H22 (io), K14 VCCO (Bank 2) (power), K15 H24 (io), K16 H26 (io), L10 G4 (io), L11 G6 (io), L12 H20 (io), L13 H16 (io), L14 H18 (io), L15 H14 (io), L16 H12 (io), M9 E8 (io), M10 E18 (io), M11 E26 (io), M12 H2 (io), M13 H8 (io), M15 H10 (io), M16 H0 (io), N9 E6 (io), N10 E16 (io), N11 E28 (io), N12 F6 (io), N13 G26 (io), N14 G24 (io), N15 G28 (io), N16 G30 (io), P9 E0 (io), P10 VCCO (Bank 2) (power), P11 E12 (io), P13 F0 (io), P14 VCCO (Bank 2) (power), P15 G18 (io), P16 G22 (io), R11 E2 (io), R12 E10 (io), R13 E20/VREF2 (io), R14 E24 (io), R15 G10 (io), R16 G20 (io), T13 E4 (io), T14 E22 (io), T15 F2 (io), T16 F4 (io)
part C pins: A1 GND (power), C5 GND (power), C12 GND (power), E3 GND (power), E14 GND (power), F8 VCC (power), F9 VCC (power), G7 GND (power), G8 GND (power), G9 GND (power), G10 GND (power), H1 NC, H2 TMS (in), H3 TDI (in), H6 VCC (power), H7 NC, H8 GND (power), H9 GND (power), H10 GND (power), H11 VCC (power), H16 NC, J1 NC, J2 TDO (out), J3 TCK (in), J6 VCC (power), J7 GND (power), J8 GND (power), J9 GND (power), J10 NC, J11 VCC (power), J13 TOE (in), K7 GND (power), K8 GND (power), K9 GND (power), K10 GND (power), L8 VCC (power), L9 VCC (power), M3 GND (power), M14 GND (power), P5 GND (power), P12 GND (power)
part A text: Bank 1; Bank 0
part B text: Bank 3; Bank 2

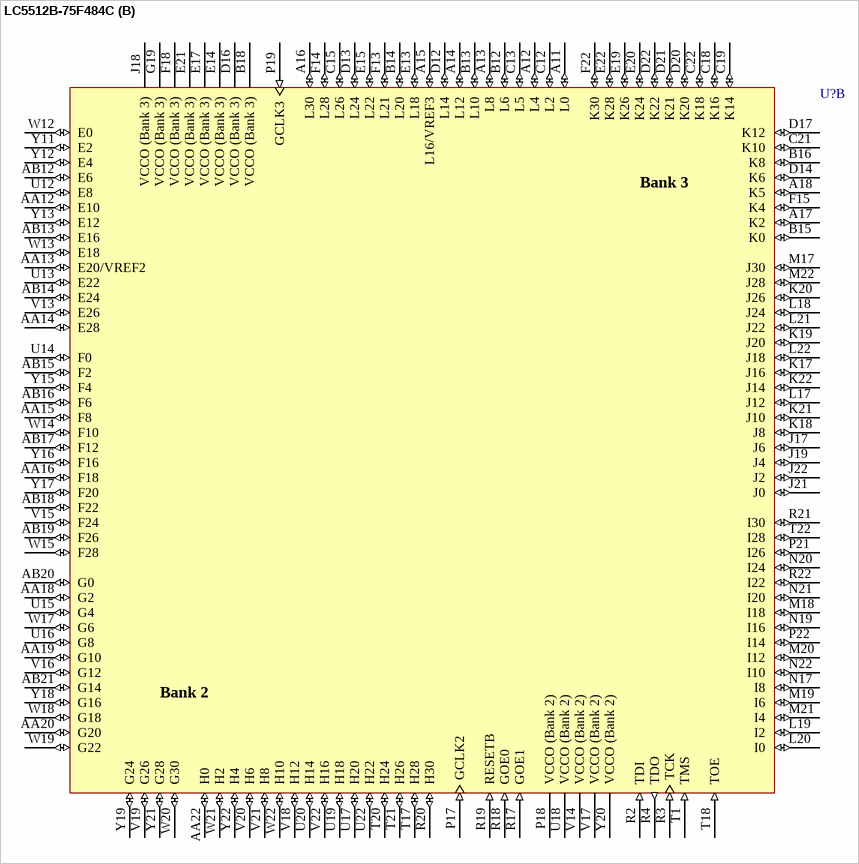
[diagram p39: symbol LC5512B-75F484C]

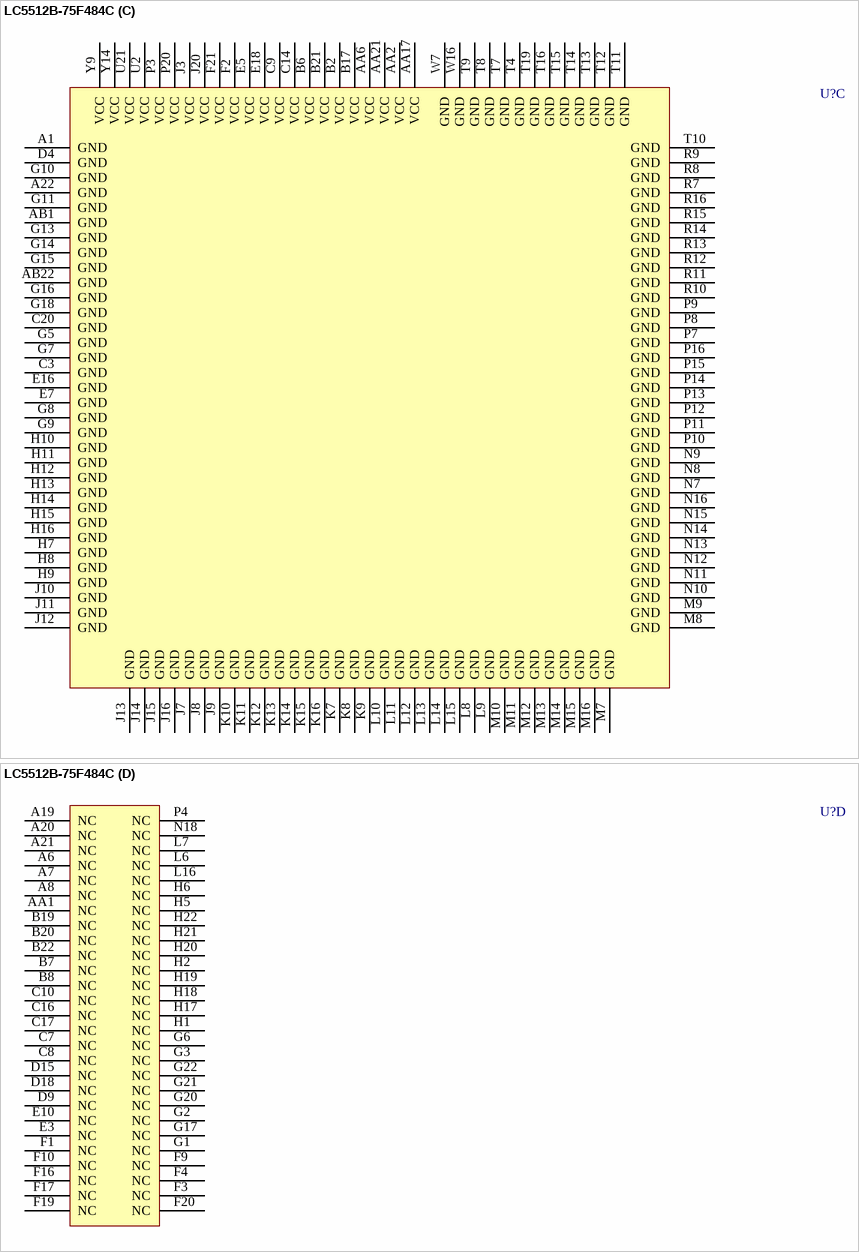
[diagram p40: symbol LC5512B-75F484C]

## LC5512B-75F484C
designator U?
ispMACH 5512B SuperWIDE, High Density PLD, 2.5 V, 256 User I/Os, 484-Ball fpBGA, 7.5 ns, Commercial Grade; Published: 17-Dec-2003; LatestRevisionDate: 13-Apr-2006; LatestRevisionNote: IPC-7351 Footprint Added.; DatasheetVersion: 5kb_11.1 (Sep-2003); PackageVersion: pkg_32, Aug-2005; PackageReference: fpBGA484; Publisher: Altium Limited; PackageDescription: 484-Ball Fine Pitch Ball Grid Array (fpBGA484); Code_IPC: BGA100P22X22-484; ComponentLink1Description: Manufacturer Link; ComponentLink1URL: http://www.latticesemi.com/; ComponentLink2Description: Datasheet; ComponentLink2URL: http://www.latticesemi.com/account/_download.cfm?AMID=4957; ComponentLink3Description: Lattice Login; ComponentLink3URL: http://www.latticesemi.com/account/login.cfm
footprint fpBGA484 (BGA, 484-Leads, Body 23x23mm, Pitch 1mm)
3D model 5512B-fpBGA484 (484-Ball Fine Pitch Ball Grid Array (fpBGA484))
part A pins: A2 N30 (io), A3 M0 (io), A4 N28 (io), A5 M6 (io), A9 M16/VREF0 (io), A10 M20 (io), AA3 B0 (io), AA4 B12 (io), AA5 B22 (io), AA7 C4 (io), AA8 C16 (io), AA9 C28 (io), AA10 D10/VREF1 (io), AA11 D24 (io), AB2 B20 (io), AB3 B24 (io), AB4 B28 (io), AB5 C0 (io), AB6 C10 (io), AB7 C24 (io), AB8 D2 (io), AB9 D6 (io), AB10 D16 (io), AB11 D28 (io), B1 N16 (io), B3 N21 (io), B4 N20 (io), B5 VCCO (Bank 0) (power), B9 M12 (io), B10 M21 (io), B11 M28 (io), C1 N6 (io), C2 N8 (io), C4 N12 (io), C5 N24 (io), C6 M4 (io), C11 M24 (io), D1 N5 (io), D2 N4 (io), D3 N2 (io), D5 N18 (io), D6 N14 (io), D7 VCCO (Bank 0) (power), D8 M2 (io), D10 M18 (io), D11 M30 (io), D19 GND (power), E1 N0 (io), E2 VCCO (Bank 0) (power), E4 N10 (io), E6 VCCO (Bank 0) (power), E8 M8 (io), E9 VCCO (Bank 0) (power), E11 M14 (io), E12 M26 (io), F5 VCCO (Bank 0) (power), F6 N22 (io), F7 N26 (io), F8 M5 (io), F11 M10 (io), F12 M22 (io), G4 VCCO (Bank 0) (power), G12 GND (power), H3 O26 (io), H4 O22 (io), J1 O30 (io), J2 O24 (io), J4 O12 (io), J5 VCCO (Bank 0) (power), J6 O18 (io), K1 O28 (io), K2 O20 (io), K3 O14 (io), K4 O4 (io), K5 O0 (io), K6 O6 (io), L1 O16 (io), L2 O10 (io), L3 O2 (io), L4 P24 (io), L5 P18 (io), M1 O8 (io), M2 P28 (io), M3 P20 (io), M4 P6 (io), M5 P8 (io), M6 P10 (io), N1 P30 (io), N2 P22 (io), N3 P12 (io), N4 P4 (io), N5 P0 (io), N6 P2 (io), P1 P26 (io), P2 P14 (io), P5 VCCO (Bank 1) (power), P6 GCLK0 (in), R1 P16 (io), R5 A0 (io), R6 GCLK1 (in), T2 A2 (io), T3 A6 (io), T5 A4 (io), T6 B6 (io), U1 A8 (io), U3 A14 (io), U4 A10 (io), U5 VCCO (Bank 1) (power), U6 B10 (io), U7 B18 (io), U8 C20 (io), U9 C26 (io), U10 D4 (io), U11 D22 (io), V1 A12 (io), V2 A18 (io), V3 A22 (io), V4 B16 (io), V5 A16 (io), V6 VCCO (Bank 1) (power), V7 B21 (io), V8 C2 (io), V9 VCCO (Bank 1) (power), V10 D12 (io), V11 D8 (io), V12 D26 (io), W1 A20 (io), W2 A24 (io), W3 A30 (io), W4 B2 (io), W5 B4 (io), W6 B14 (io), W8 C12 (io), W9 D0 (io), W10 D18 (io), W11 D20 (io), Y1 A26 (io), Y2 A28 (io), Y3 VCCO (Bank 1) (power), Y4 B5 (io), Y5 B8 (io), Y6 B26 (io), Y7 B30 (io), Y8 C8 (io), Y10 C18 (io)
part B pins: A11 L0 (io), A12 L4 (io), A13 L8 (io), A14 L12 (io), A15 L16/VREF3 (io), A16 L30 (io), A17 K2 (io), A18 K5 (io), AA12 E10 (io), AA13 E20/VREF2 (io), AA14 E28 (io), AA15 F8 (io), AA16 F18 (io), AA18 G2 (io), AA19 G10 (io), AA20 G20 (io), AA22 H0 (io), AB12 E6 (io), AB13 E16 (io), AB14 E24 (io), AB15 F2 (io), AB16 F6 (io), AB17 F12 (io), AB18 F22 (io), AB19 F26 (io), AB20 G0 (io), AB21 G14 (io), B12 L6 (io), B13 L10 (io), B14 L20 (io), B15 K0 (io), B16 K8 (io), B18 VCCO (Bank 3) (power), C12 L2 (io), C13 L5 (io), C15 L26 (io), C18 K16 (io), C19 K14 (io), C21 K10 (io), C22 K18 (io), D12 L14 (io), D13 L24 (io), D14 K6 (io), D16 VCCO (Bank 3) (power), D17 K12 (io), D20 K20 (io), D21 K21 (io), D22 K22 (io), E13 L18 (io), E14 VCCO (Bank 3) (power), E15 L22 (io), E17 VCCO (Bank 3) (power), E19 K26 (io), E20 K24 (io), E21 VCCO (Bank 3) (power), E22 K28 (io), F13 L21 (io), F14 L28 (io), F15 K4 (io), F18 VCCO (Bank 3) (power), F22 K30 (io), G19 VCCO (Bank 3) (power), J17 J6 (io), J18 VCCO (Bank 3) (power), J19 J4 (io), J21 J0 (io), J22 J2 (io), K17 J16 (io), K18 J8 (io), K19 J20 (io), K20 J26 (io), K21 J10 (io), K22 J14 (io), L17 J12 (io), L18 J24 (io), L19 I2 (io), L20 I0 (io), L21 J22 (io), L22 J18 (io), M17 J30 (io), M18 I18 (io), M19 I6 (io), M20 I12 (io), M21 I4 (io), M22 J28 (io), N17 I8 (io), N19 I16 (io), N20 I24 (io), N21 I20 (io), N22 I10 (io), P17 GCLK2 (in), P18 VCCO (Bank 2) (power), P19 GCLK3 (in), P21 I26 (io), P22 I14 (io), R2 TDI (in), R3 TCK (in), R4 TDO (out), R17 GOE1 (in), R18 GOE0 (in), R19 RESETB (in), R20 H30 (io), R21 I30 (io), R22 I22 (io), T1 TMS (in), T17 H28 (io), T18 TOE (in), T20 H24 (io), T21 H26 (io), T22 I28 (io), U12 E8 (io), U13 E22 (io), U14 F0 (io), U15 G4 (io), U16 G8 (io), U17 H20 (io), U18 VCCO (Bank 2) (power), U19 H18 (io), U20 H14 (io), U22 H22 (io), V13 E26 (io), V14 VCCO (Bank 2) (power), V15 F24 (io), V16 G12 (io), V17 VCCO (Bank 2) (power), V18 H12 (io), V19 G26 (io), V20 H6 (io), V21 H8 (io), V22 H16 (io), W12 E0 (io), W13 E18 (io), W14 F10 (io), W15 F28 (io), W17 G6 (io), W18 G18 (io), W19 G22 (io), W20 G30 (io), W21 H2 (io), W22 H10 (io), Y11 E2 (io), Y12 E4 (io), Y13 E12 (io), Y15 F4 (io), Y16 F16 (io), Y17 F20 (io), Y18 G16 (io), Y19 G24 (io), Y20 VCCO (Bank 2) (power), Y21 G28 (io), Y22 H4 (io)
part C pins: A1 GND (power), A22 GND (power), AA2 VCC (power), AA6 VCC (power), AA17 VCC (power), AA21 VCC (power), AB1 GND (power), AB22 GND (power), B2 VCC (power), B6 VCC (power), B17 VCC (power), B21 VCC (power), C3 GND (power), C9 VCC (power), C14 VCC (power), C20 GND (power), D4 GND (power), E5 VCC (power), E7 GND (power), E16 GND (power), E18 VCC (power), F2 VCC (power), F21 VCC (power), G5 GND (power), G7 GND (power), G8 GND (power), G9 GND (power), G10 GND (power), G11 GND (power), G13 GND (power), G14 GND (power), G15 GND (power), G16 GND (power), G18 GND (power), H7 GND (power), H8 GND (power), H9 GND (power), H10 GND (power), H11 GND (power), H12 GND (power), H13 GND (power), H14 GND (power), H15 GND (power), H16 GND (power), J3 VCC (power), J7 GND (power), J8 GND (power), J9 GND (power), J10 GND (power), J11 GND (power), J12 GND (power), J13 GND (power), J14 GND (power), J15 GND (power), J16 GND (power), J20 VCC (power), K7 GND (power), K8 GND (power), K9 GND (power), K10 GND (power), K11 GND (power), K12 GND (power), K13 GND (power), K14 GND (power), K15 GND (power), K16 GND (power), L8 GND (power), L9 GND (power), L10 GND (power), L11 GND (power), L12 GND (power), L13 GND (power), L14 GND (power), L15 GND (power), M7 GND (power), M8 GND (power), M9 GND (power), M10 GND (power), M11 GND (power), M12 GND (power), M13 GND (power), M14 GND (power), M15 GND (power), M16 GND (power), N7 GND (power), N8 GND (power), N9 GND (power), N10 GND (power), N11 GND (power), N12 GND (power), N13 GND (power), N14 GND (power), N15 GND (power), N16 GND (power), P3 VCC (power), P7 GND (power), P8 GND (power), P9 GND (power), P10 GND (power), P11 GND (power), P12 GND (power), P13 GND (power), P14 GND (power), P15 GND (power), P16 GND (power), P20 VCC (power), R7 GND (power), R8 GND (power), R9 GND (power), R10 GND (power), R11 GND (power), R12 GND (power), R13 GND (power), R14 GND (power), R15 GND (power), R16 GND (power), T4 GND (power), T7 GND (power), T8 GND (power), T9 GND (power), T10 GND (power), T11 GND (power), T12 GND (power), T13 GND (power), T14 GND (power), T15 GND (power), T16 GND (power), T19 GND (power), U2 VCC (power), U21 VCC (power), W7 GND (power), W16 GND (power), Y9 VCC (power), Y14 VCC (power)
part D pins: A6 NC, A7 NC, A8 NC, A19 NC, A20 NC, A21 NC, AA1 NC, B7 NC, B8 NC, B19 NC, B20 NC, B22 NC, C7 NC, C8 NC, C10 NC, C16 NC, C17 NC, D9 NC, D15 NC, D18 NC, E3 NC, E10 NC, F1 NC, F3 NC, F4 NC, F9 NC, F10 NC, F16 NC, F17 NC, F19 NC, F20 NC, G1 NC, G2 NC, G3 NC, G6 NC, G17 NC, G20 NC, G21 NC, G22 NC, H1 NC, H2 NC, H5 NC, H6 NC, H17 NC, H18 NC, H19 NC, H20 NC, H21 NC, H22 NC, L6 NC, L7 NC, L16 NC, N18 NC, P4 NC
part A text: Bank 1; Bank 0
part B text: Bank 3; Bank 2

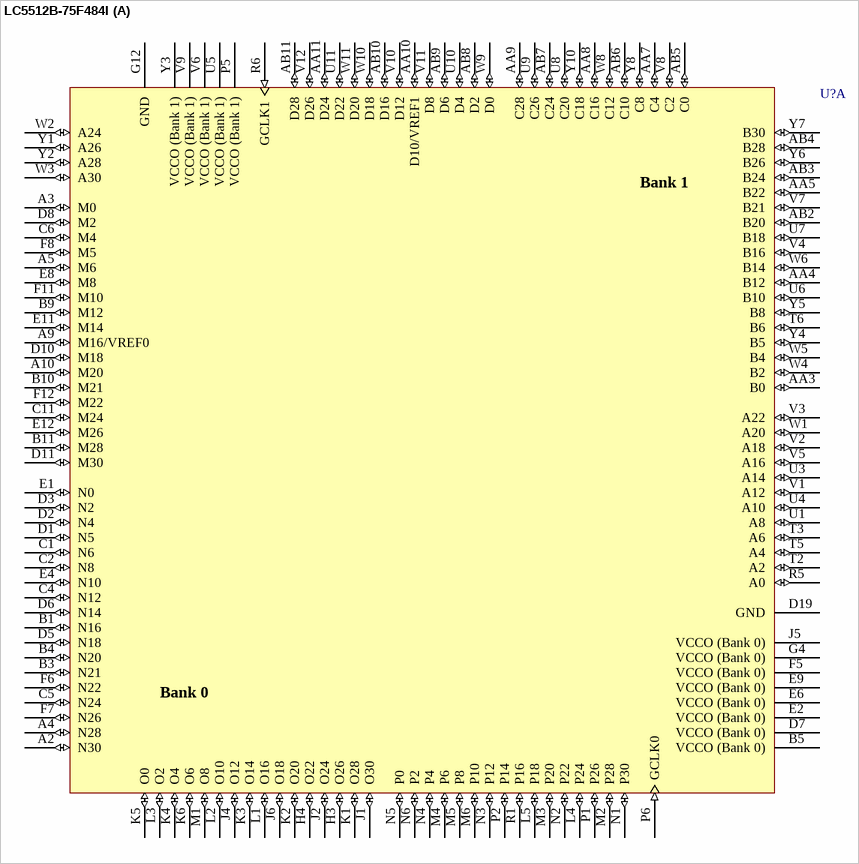
[diagram p41: symbol LC5512B-75F484I]

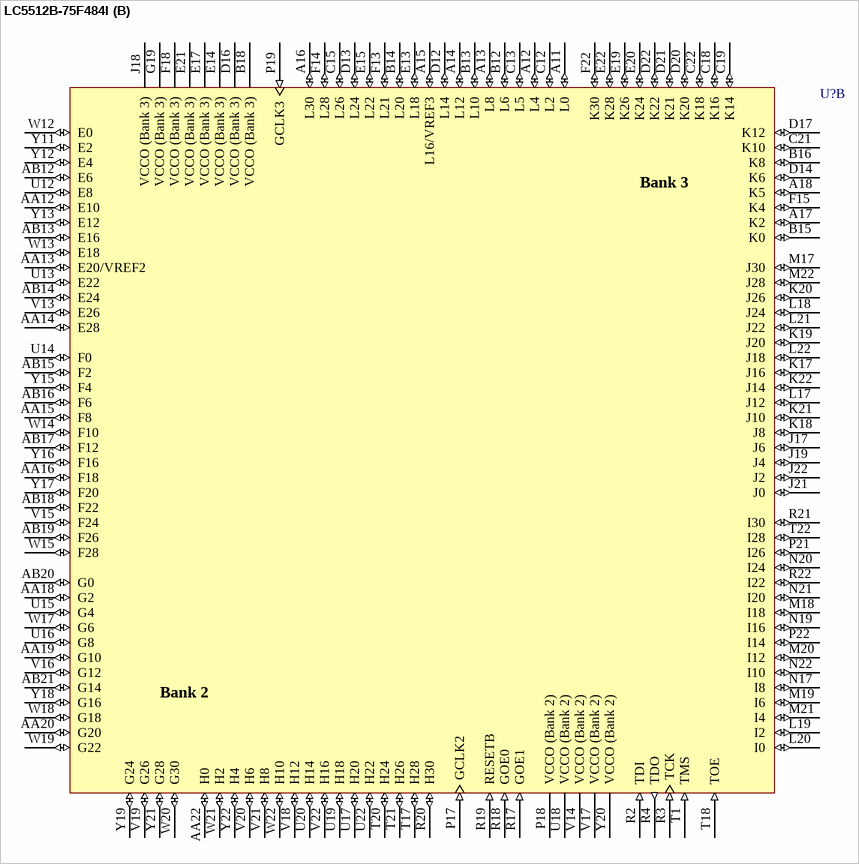
[diagram p42: symbol LC5512B-75F484I]

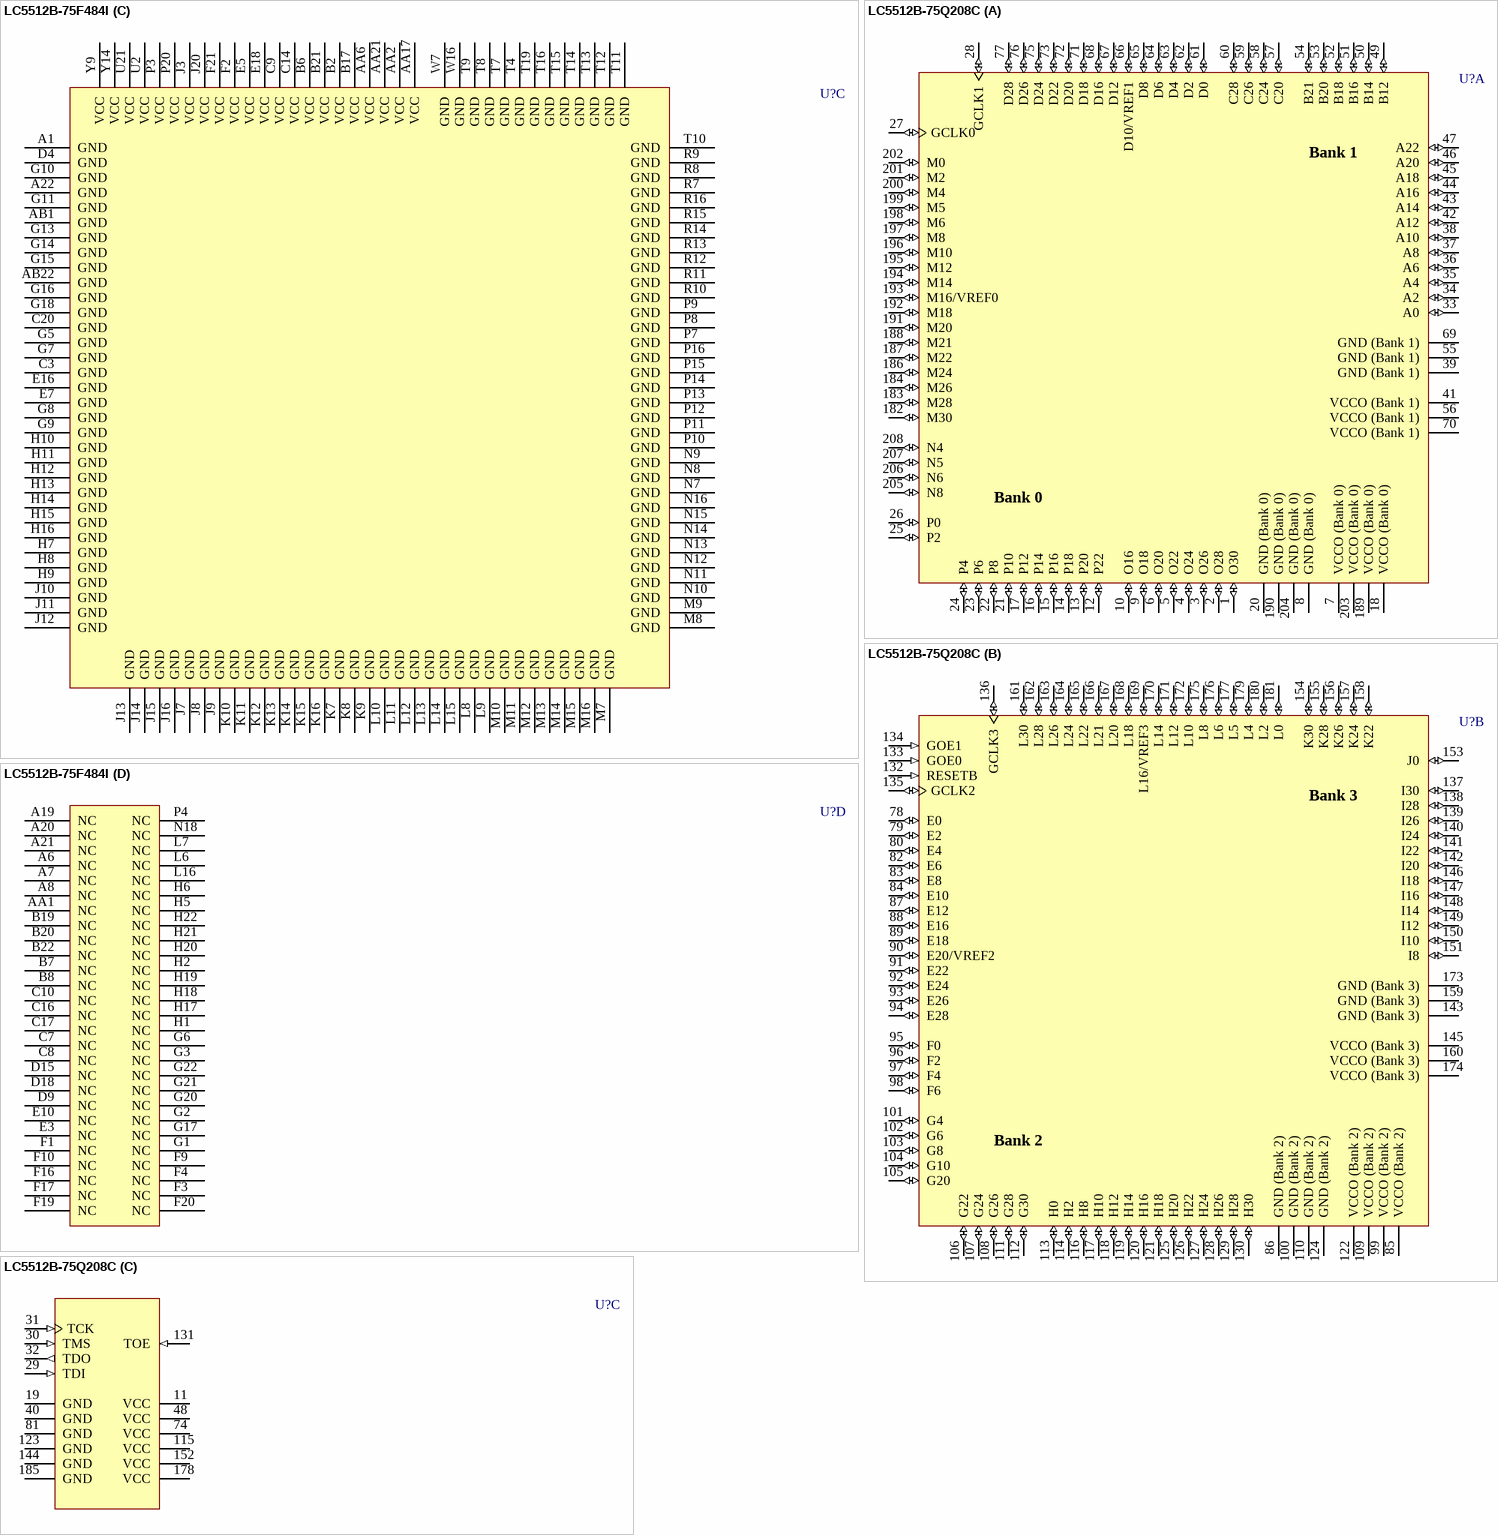
[diagram p43: symbols LC5512B-75F484I to LC5512B-75Q208C]

## LC5512B-75F484I
designator U?
ispMACH 5512B SuperWIDE, High Density PLD, 2.5 V, 256 User I/Os, 484-Ball fpBGA, 7.5 ns, Industrial Grade; Published: 17-Dec-2003; LatestRevisionDate: 13-Apr-2006; LatestRevisionNote: IPC-7351 Footprint Added.; DatasheetVersion: 5kb_11.1 (Sep-2003); PackageVersion: pkg_32, Aug-2005; PackageReference: fpBGA484; Publisher: Altium Limited; PackageDescription: 484-Ball Fine Pitch Ball Grid Array (fpBGA484); Code_IPC: BGA100P22X22-484; ComponentLink1Description: Manufacturer Link; ComponentLink1URL: http://www.latticesemi.com/; ComponentLink2Description: Datasheet; ComponentLink2URL: http://www.latticesemi.com/account/_download.cfm?AMID=4957; ComponentLink3Description: Lattice Login; ComponentLink3URL: http://www.latticesemi.com/account/login.cfm
footprint fpBGA484 (BGA, 484-Leads, Body 23x23mm, Pitch 1mm)
3D model 5512B-fpBGA484 (484-Ball Fine Pitch Ball Grid Array (fpBGA484))
part A pins: A2 N30 (io), A3 M0 (io), A4 N28 (io), A5 M6 (io), A9 M16/VREF0 (io), A10 M20 (io), AA3 B0 (io), AA4 B12 (io), AA5 B22 (io), AA7 C4 (io), AA8 C16 (io), AA9 C28 (io), AA10 D10/VREF1 (io), AA11 D24 (io), AB2 B20 (io), AB3 B24 (io), AB4 B28 (io), AB5 C0 (io), AB6 C10 (io), AB7 C24 (io), AB8 D2 (io), AB9 D6 (io), AB10 D16 (io), AB11 D28 (io), B1 N16 (io), B3 N21 (io), B4 N20 (io), B5 VCCO (Bank 0) (power), B9 M12 (io), B10 M21 (io), B11 M28 (io), C1 N6 (io), C2 N8 (io), C4 N12 (io), C5 N24 (io), C6 M4 (io), C11 M24 (io), D1 N5 (io), D2 N4 (io), D3 N2 (io), D5 N18 (io), D6 N14 (io), D7 VCCO (Bank 0) (power), D8 M2 (io), D10 M18 (io), D11 M30 (io), D19 GND (power), E1 N0 (io), E2 VCCO (Bank 0) (power), E4 N10 (io), E6 VCCO (Bank 0) (power), E8 M8 (io), E9 VCCO (Bank 0) (power), E11 M14 (io), E12 M26 (io), F5 VCCO (Bank 0) (power), F6 N22 (io), F7 N26 (io), F8 M5 (io), F11 M10 (io), F12 M22 (io), G4 VCCO (Bank 0) (power), G12 GND (power), H3 O26 (io), H4 O22 (io), J1 O30 (io), J2 O24 (io), J4 O12 (io), J5 VCCO (Bank 0) (power), J6 O18 (io), K1 O28 (io), K2 O20 (io), K3 O14 (io), K4 O4 (io), K5 O0 (io), K6 O6 (io), L1 O16 (io), L2 O10 (io), L3 O2 (io), L4 P24 (io), L5 P18 (io), M1 O8 (io), M2 P28 (io), M3 P20 (io), M4 P6 (io), M5 P8 (io), M6 P10 (io), N1 P30 (io), N2 P22 (io), N3 P12 (io), N4 P4 (io), N5 P0 (io), N6 P2 (io), P1 P26 (io), P2 P14 (io), P5 VCCO (Bank 1) (power), P6 GCLK0 (in), R1 P16 (io), R5 A0 (io), R6 GCLK1 (in), T2 A2 (io), T3 A6 (io), T5 A4 (io), T6 B6 (io), U1 A8 (io), U3 A14 (io), U4 A10 (io), U5 VCCO (Bank 1) (power), U6 B10 (io), U7 B18 (io), U8 C20 (io), U9 C26 (io), U10 D4 (io), U11 D22 (io), V1 A12 (io), V2 A18 (io), V3 A22 (io), V4 B16 (io), V5 A16 (io), V6 VCCO (Bank 1) (power), V7 B21 (io), V8 C2 (io), V9 VCCO (Bank 1) (power), V10 D12 (io), V11 D8 (io), V12 D26 (io), W1 A20 (io), W2 A24 (io), W3 A30 (io), W4 B2 (io), W5 B4 (io), W6 B14 (io), W8 C12 (io), W9 D0 (io), W10 D18 (io), W11 D20 (io), Y1 A26 (io), Y2 A28 (io), Y3 VCCO (Bank 1) (power), Y4 B5 (io), Y5 B8 (io), Y6 B26 (io), Y7 B30 (io), Y8 C8 (io), Y10 C18 (io)
part B pins: A11 L0 (io), A12 L4 (io), A13 L8 (io), A14 L12 (io), A15 L16/VREF3 (io), A16 L30 (io), A17 K2 (io), A18 K5 (io), AA12 E10 (io), AA13 E20/VREF2 (io), AA14 E28 (io), AA15 F8 (io), AA16 F18 (io), AA18 G2 (io), AA19 G10 (io), AA20 G20 (io), AA22 H0 (io), AB12 E6 (io), AB13 E16 (io), AB14 E24 (io), AB15 F2 (io), AB16 F6 (io), AB17 F12 (io), AB18 F22 (io), AB19 F26 (io), AB20 G0 (io), AB21 G14 (io), B12 L6 (io), B13 L10 (io), B14 L20 (io), B15 K0 (io), B16 K8 (io), B18 VCCO (Bank 3) (power), C12 L2 (io), C13 L5 (io), C15 L26 (io), C18 K16 (io), C19 K14 (io), C21 K10 (io), C22 K18 (io), D12 L14 (io), D13 L24 (io), D14 K6 (io), D16 VCCO (Bank 3) (power), D17 K12 (io), D20 K20 (io), D21 K21 (io), D22 K22 (io), E13 L18 (io), E14 VCCO (Bank 3) (power), E15 L22 (io), E17 VCCO (Bank 3) (power), E19 K26 (io), E20 K24 (io), E21 VCCO (Bank 3) (power), E22 K28 (io), F13 L21 (io), F14 L28 (io), F15 K4 (io), F18 VCCO (Bank 3) (power), F22 K30 (io), G19 VCCO (Bank 3) (power), J17 J6 (io), J18 VCCO (Bank 3) (power), J19 J4 (io), J21 J0 (io), J22 J2 (io), K17 J16 (io), K18 J8 (io), K19 J20 (io), K20 J26 (io), K21 J10 (io), K22 J14 (io), L17 J12 (io), L18 J24 (io), L19 I2 (io), L20 I0 (io), L21 J22 (io), L22 J18 (io), M17 J30 (io), M18 I18 (io), M19 I6 (io), M20 I12 (io), M21 I4 (io), M22 J28 (io), N17 I8 (io), N19 I16 (io), N20 I24 (io), N21 I20 (io), N22 I10 (io), P17 GCLK2 (in), P18 VCCO (Bank 2) (power), P19 GCLK3 (in), P21 I26 (io), P22 I14 (io), R2 TDI (in), R3 TCK (in), R4 TDO (out), R17 GOE1 (in), R18 GOE0 (in), R19 RESETB (in), R20 H30 (io), R21 I30 (io), R22 I22 (io), T1 TMS (in), T17 H28 (io), T18 TOE (in), T20 H24 (io), T21 H26 (io), T22 I28 (io), U12 E8 (io), U13 E22 (io), U14 F0 (io), U15 G4 (io), U16 G8 (io), U17 H20 (io), U18 VCCO (Bank 2) (power), U19 H18 (io), U20 H14 (io), U22 H22 (io), V13 E26 (io), V14 VCCO (Bank 2) (power), V15 F24 (io), V16 G12 (io), V17 VCCO (Bank 2) (power), V18 H12 (io), V19 G26 (io), V20 H6 (io), V21 H8 (io), V22 H16 (io), W12 E0 (io), W13 E18 (io), W14 F10 (io), W15 F28 (io), W17 G6 (io), W18 G18 (io), W19 G22 (io), W20 G30 (io), W21 H2 (io), W22 H10 (io), Y11 E2 (io), Y12 E4 (io), Y13 E12 (io), Y15 F4 (io), Y16 F16 (io), Y17 F20 (io), Y18 G16 (io), Y19 G24 (io), Y20 VCCO (Bank 2) (power), Y21 G28 (io), Y22 H4 (io)
part C pins: A1 GND (power), A22 GND (power), AA2 VCC (power), AA6 VCC (power), AA17 VCC (power), AA21 VCC (power), AB1 GND (power), AB22 GND (power), B2 VCC (power), B6 VCC (power), B17 VCC (power), B21 VCC (power), C3 GND (power), C9 VCC (power), C14 VCC (power), C20 GND (power), D4 GND (power), E5 VCC (power), E7 GND (power), E16 GND (power), E18 VCC (power), F2 VCC (power), F21 VCC (power), G5 GND (power), G7 GND (power), G8 GND (power), G9 GND (power), G10 GND (power), G11 GND (power), G13 GND (power), G14 GND (power), G15 GND (power), G16 GND (power), G18 GND (power), H7 GND (power), H8 GND (power), H9 GND (power), H10 GND (power), H11 GND (power), H12 GND (power), H13 GND (power), H14 GND (power), H15 GND (power), H16 GND (power), J3 VCC (power), J7 GND (power), J8 GND (power), J9 GND (power), J10 GND (power), J11 GND (power), J12 GND (power), J13 GND (power), J14 GND (power), J15 GND (power), J16 GND (power), J20 VCC (power), K7 GND (power), K8 GND (power), K9 GND (power), K10 GND (power), K11 GND (power), K12 GND (power), K13 GND (power), K14 GND (power), K15 GND (power), K16 GND (power), L8 GND (power), L9 GND (power), L10 GND (power), L11 GND (power), L12 GND (power), L13 GND (power), L14 GND (power), L15 GND (power), M7 GND (power), M8 GND (power), M9 GND (power), M10 GND (power), M11 GND (power), M12 GND (power), M13 GND (power), M14 GND (power), M15 GND (power), M16 GND (power), N7 GND (power), N8 GND (power), N9 GND (power), N10 GND (power), N11 GND (power), N12 GND (power), N13 GND (power), N14 GND (power), N15 GND (power), N16 GND (power), P3 VCC (power), P7 GND (power), P8 GND (power), P9 GND (power), P10 GND (power), P11 GND (power), P12 GND (power), P13 GND (power), P14 GND (power), P15 GND (power), P16 GND (power), P20 VCC (power), R7 GND (power), R8 GND (power), R9 GND (power), R10 GND (power), R11 GND (power), R12 GND (power), R13 GND (power), R14 GND (power), R15 GND (power), R16 GND (power), T4 GND (power), T7 GND (power), T8 GND (power), T9 GND (power), T10 GND (power), T11 GND (power), T12 GND (power), T13 GND (power), T14 GND (power), T15 GND (power), T16 GND (power), T19 GND (power), U2 VCC (power), U21 VCC (power), W7 GND (power), W16 GND (power), Y9 VCC (power), Y14 VCC (power)
part D pins: A6 NC, A7 NC, A8 NC, A19 NC, A20 NC, A21 NC, AA1 NC, B7 NC, B8 NC, B19 NC, B20 NC, B22 NC, C7 NC, C8 NC, C10 NC, C16 NC, C17 NC, D9 NC, D15 NC, D18 NC, E3 NC, E10 NC, F1 NC, F3 NC, F4 NC, F9 NC, F10 NC, F16 NC, F17 NC, F19 NC, F20 NC, G1 NC, G2 NC, G3 NC, G6 NC, G17 NC, G20 NC, G21 NC, G22 NC, H1 NC, H2 NC, H5 NC, H6 NC, H17 NC, H18 NC, H19 NC, H20 NC, H21 NC, H22 NC, L6 NC, L7 NC, L16 NC, N18 NC, P4 NC
part A text: Bank 1; Bank 0
part B text: Bank 3; Bank 2

## LC5512B-75Q208C
designator U?
ispMACH 5512B SuperWIDE, High Density PLD, 2.5 V, 156 User I/Os, 208-Pin PQFP, 7.5 ns, Commercial Grade; Published: 17-Dec-2003; LatestRevisionDate: 13-Apr-2006; LatestRevisionNote: IPC-7351 Footprint Added.; DatasheetVersion: 5kb_11.1 (Sep-2003); PackageVersion: pkg_32, Aug-2005; PackageReference: PQFP208; Publisher: Altium Limited; PackageDescription: 208-Pin Plastic Quad Flat Pack (PQFP208); Code_JEDEC: MO-143-FAI; ComponentLink1Description: Manufacturer Link; ComponentLink1URL: http://www.latticesemi.com/; ComponentLink2Description: Datasheet; ComponentLink2URL: http://www.latticesemi.com/account/_download.cfm?AMID=4957; ComponentLink3Description: Lattice Login; ComponentLink3URL: http://www.latticesemi.com/account/login.cfm
footprint PQFP208_N (Shrink QFP, 208-Leads, Body 28x28mm, Pitch 0.5mm, IPC Medium Density)
footprint PQFP208_L (Shrink QFP, 208-Leads, Body 28x28mm, Pitch 0.5mm, IPC High Density)
footprint PQFP208_M (Shrink QFP, 208-Leads, Body 28x28mm, Pitch 0.5mm, IPC Low Density)
3D model 5512B-PQFP208 (208-Pin Plastic Quad Flat Pack (PQFP208))
part A pins: 1 O30 (io), 2 O28 (io), 3 O26 (io), 4 O24 (io), 5 O22 (io), 6 O20 (io), 7 VCCO (Bank 0) (power), 8 GND (Bank 0) (power), 9 O18 (io), 10 O16 (io), 12 P22 (io), 13 P20 (io), 14 P18 (io), 15 P16 (io), 16 P14 (io), 17 P12 (io), 18 VCCO (Bank 0) (power), 20 GND (Bank 0) (power), 21 P10 (io), 22 P8 (io), 23 P6 (io), 24 P4 (io), 25 P2 (io), 26 P0 (io), 27 GCLK0 (io), 28 GCLK1 (io), 33 A0 (io), 34 A2 (io), 35 A4 (io), 36 A6 (io), 37 A8 (io), 38 A10 (io), 39 GND (Bank 1) (power), 41 VCCO (Bank 1) (power), 42 A12 (io), 43 A14 (io), 44 A16 (io), 45 A18 (io), 46 A20 (io), 47 A22 (io), 49 B12 (io), 50 B14 (io), 51 B16 (io), 52 B18 (io), 53 B20 (io), 54 B21 (io), 55 GND (Bank 1) (power), 56 VCCO (Bank 1) (power), 57 C20 (io), 58 C24 (io), 59 C26 (io), 60 C28 (io), 61 D0 (io), 62 D2 (io), 63 D4 (io), 64 D6 (io), 65 D8 (io), 66 D10/VREF1 (io), 67 D12 (io), 68 D16 (io), 69 GND (Bank 1) (power), 70 VCCO (Bank 1) (power), 71 D18 (io), 72 D20 (io), 73 D22 (io), 75 D24 (io), 76 D26 (io), 77 D28 (io), 182 M30 (io), 183 M28 (io), 184 M26 (io), 186 M24 (io), 187 M22 (io), 188 M21 (io), 189 VCCO (Bank 0) (power), 190 GND (Bank 0) (power), 191 M20 (io), 192 M18 (io), 193 M16/VREF0 (io), 194 M14 (io), 195 M12 (io), 196 M10 (io), 197 M8 (io), 198 M6 (io), 199 M5 (io), 200 M4 (io), 201 M2 (io), 202 M0 (io), 203 VCCO (Bank 0) (power), 204 GND (Bank 0) (power), 205 N8 (io), 206 N6 (io), 207 N5 (io), 208 N4 (io)
part B pins: 78 E0 (io), 79 E2 (io), 80 E4 (io), 82 E6 (io), 83 E8 (io), 84 E10 (io), 85 VCCO (Bank 2) (power), 86 GND (Bank 2) (power), 87 E12 (io), 88 E16 (io), 89 E18 (io), 90 E20/VREF2 (io), 91 E22 (io), 92 E24 (io), 93 E26 (io), 94 E28 (io), 95 F0 (io), 96 F2 (io), 97 F4 (io), 98 F6 (io), 99 VCCO (Bank 2) (power), 100 GND (Bank 2) (power), 101 G4 (io), 102 G6 (io), 103 G8 (io), 104 G10 (io), 105 G20 (io), 106 G22 (io), 107 G24 (io), 108 G26 (io), 109 VCCO (Bank 2) (power), 110 GND (Bank 2) (power), 111 G28 (io), 112 G30 (io), 113 H0 (io), 114 H2 (io), 116 H8 (io), 117 H10 (io), 118 H12 (io), 119 H14 (io), 120 H16 (io), 121 H18 (io), 122 VCCO (Bank 2) (power), 124 GND (Bank 2) (power), 125 H20 (io), 126 H22 (io), 127 H24 (io), 128 H26 (io), 129 H28 (io), 130 H30 (io), 132 RESETB (in), 133 GOE0 (in), 134 GOE1 (in), 135 GCLK2 (io), 136 GCLK3 (io), 137 I30 (io), 138 I28 (io), 139 I26 (io), 140 I24 (io), 141 I22 (io), 142 I20 (io), 143 GND (Bank 3) (power), 145 VCCO (Bank 3) (power), 146 I18 (io), 147 I16 (io), 148 I14 (io), 149 I12 (io), 150 I10 (io), 151 I8 (io), 153 J0 (io), 154 K30 (io), 155 K28 (io), 156 K26 (io), 157 K24 (io), 158 K22 (io), 159 GND (Bank 3) (power), 160 VCCO (Bank 3) (power), 161 L30 (io), 162 L28 (io), 163 L26 (io), 164 L24 (io), 165 L22 (io), 166 L21 (io), 167 L20 (io), 168 L18 (io), 169 L16/VREF3 (io), 170 L14 (io), 171 L12 (io), 172 L10 (io), 173 GND (Bank 3) (power), 174 VCCO (Bank 3) (power), 175 L8 (io), 176 L6 (io), 177 L5 (io), 179 L4 (io), 180 L2 (io), 181 L0 (io)
part C pins: 11 VCC (power), 19 GND (power), 29 TDI (in), 30 TMS (in), 31 TCK (in), 32 TDO (out), 40 GND (power), 48 VCC (power), 74 VCC (power), 81 GND (power), 115 VCC (power), 123 GND (power), 131 TOE (in), 144 GND (power), 152 VCC (power), 178 VCC (power), 185 GND (power)
part A text: Bank 1; Bank 0
part B text: Bank 3; Bank 2

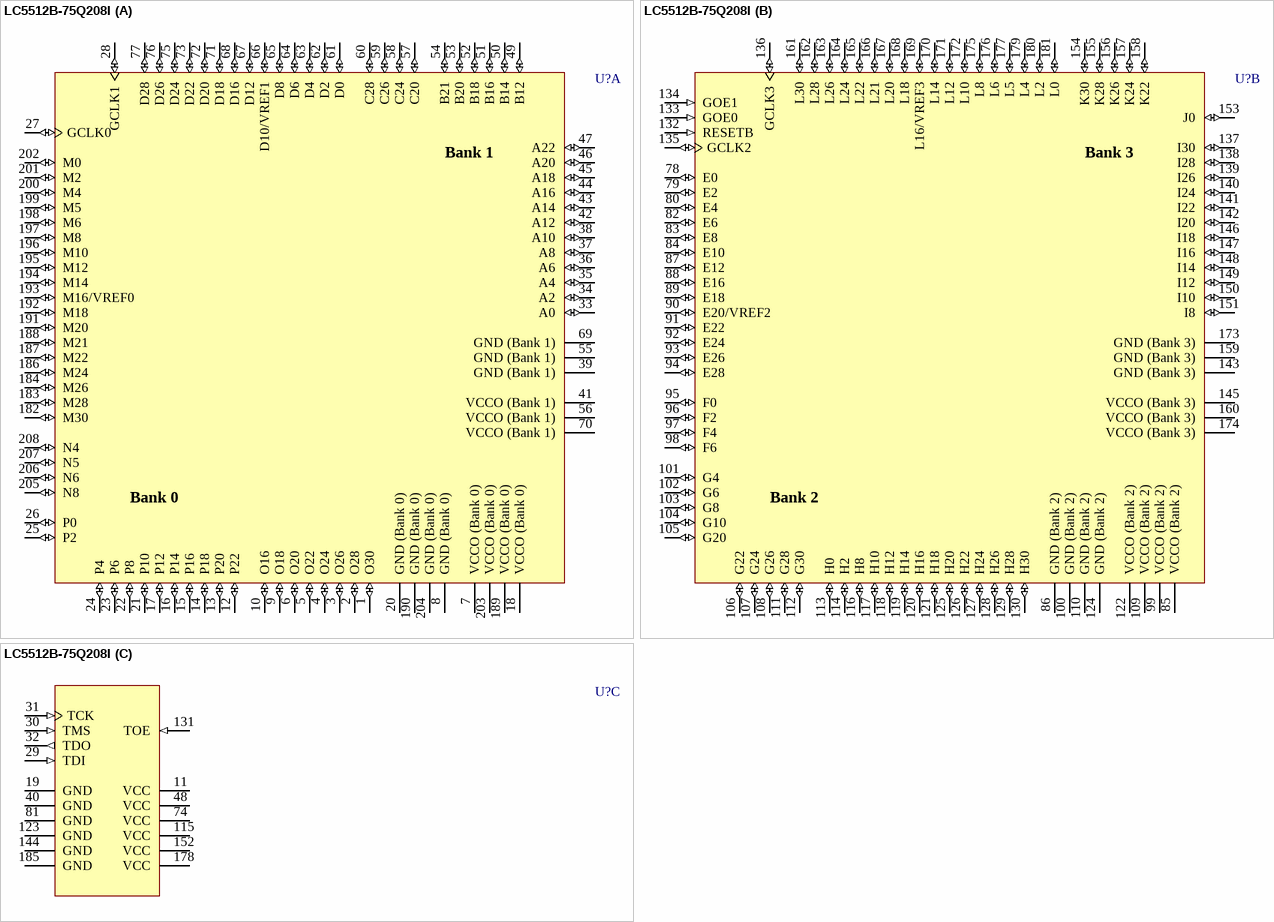
[diagram p44: symbol LC5512B-75Q208I]